# Altium schematic symbol library LimeMicroAltiumLib_schLib.SchLib: 199 symbols (part 7 of 8)
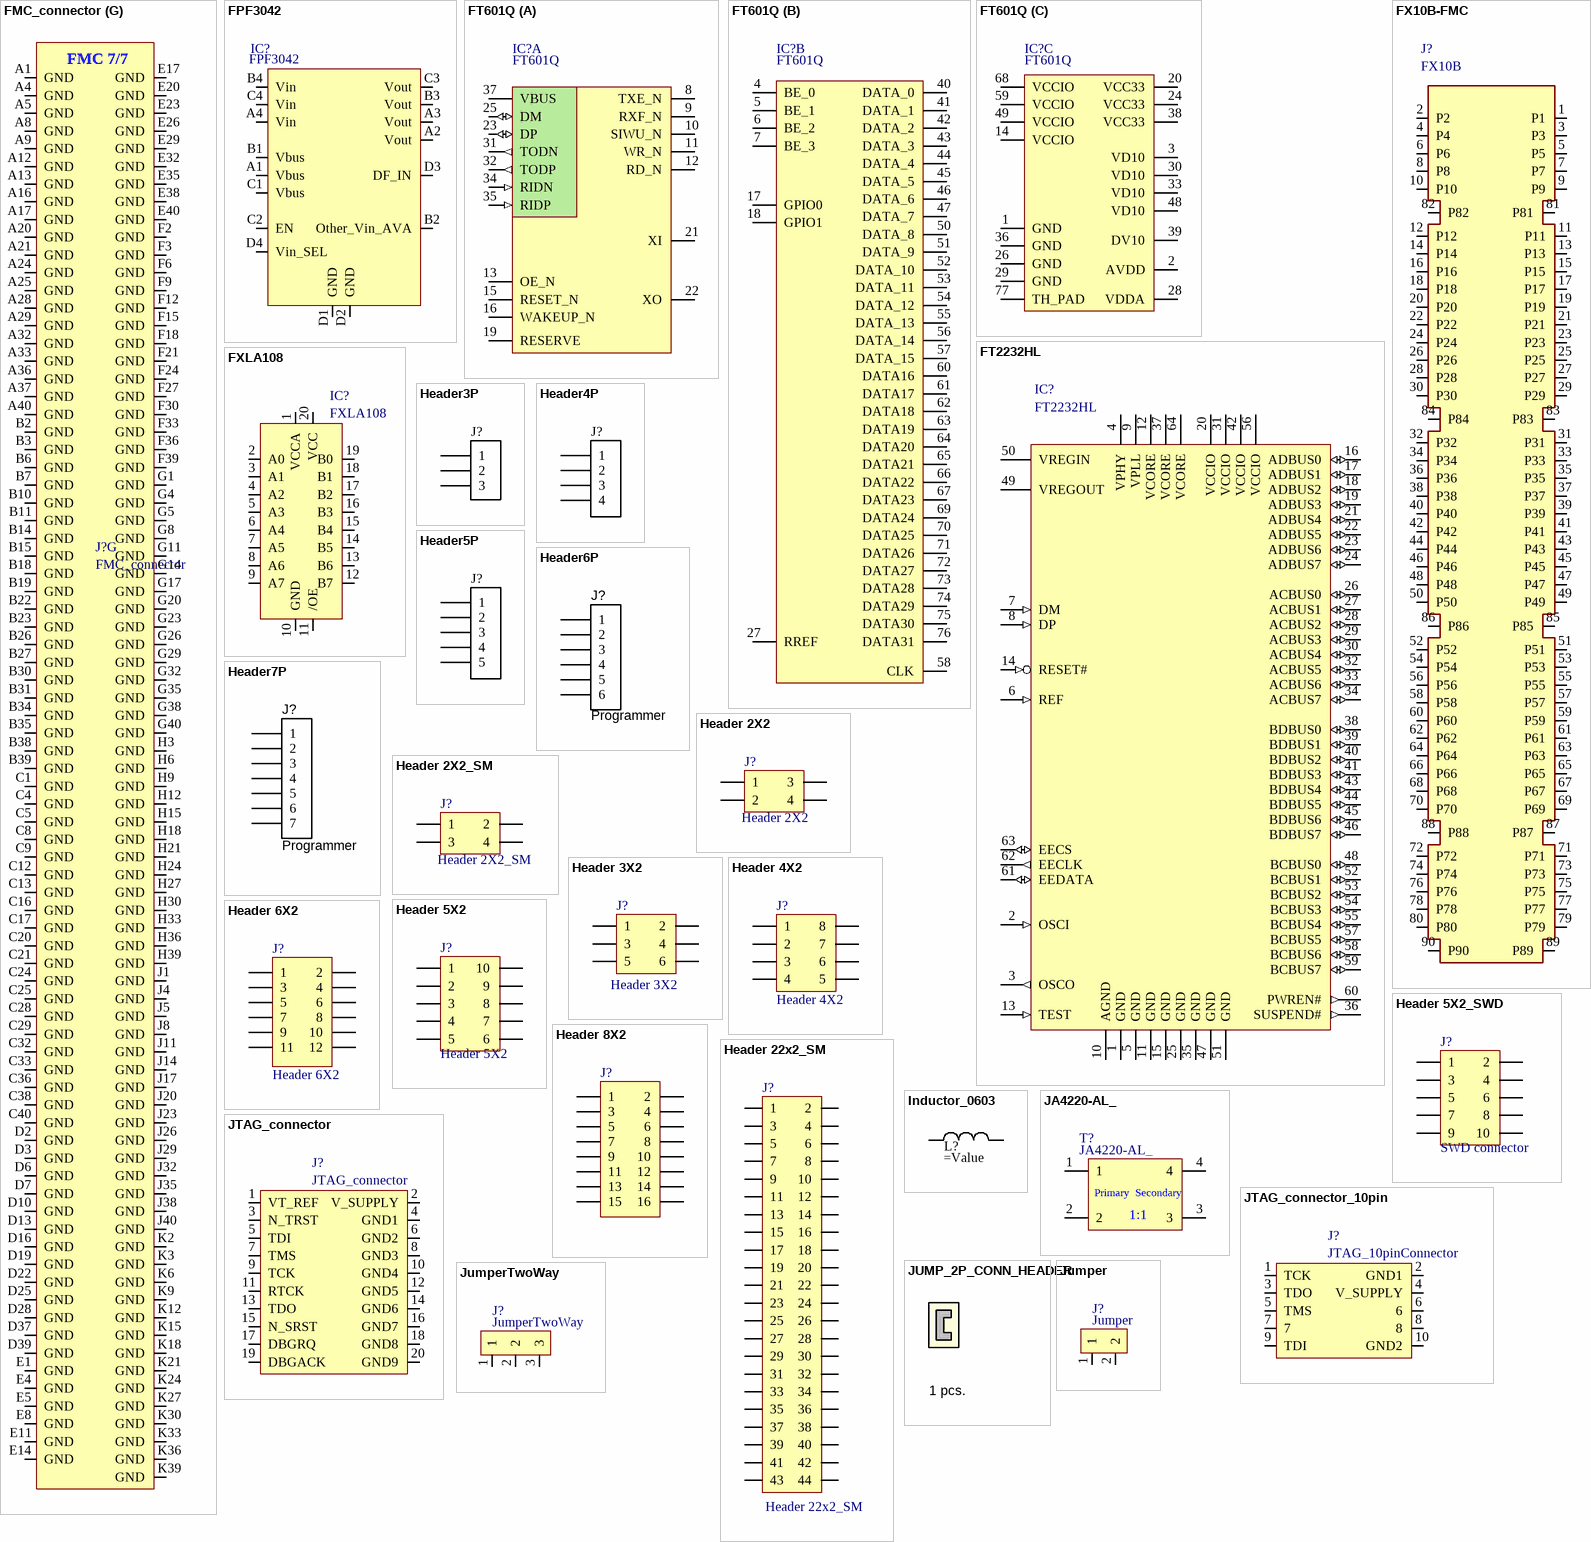
[diagram p40: symbols FMC_connector to JumperTwoWay]

## Header 22x2_SM
designator J?
footprint Header22x2_SM
pins: 1, 2, 3, 4, 5, 6, 7, 8, 9, 10, 11, 12, 13, 14, 15, 16, 17, 18, 19, 20, 21, 22, 23, 24, 25, 26, 27, 28, 29, 30, 31, 32, 33, 34, 35, 36, 37, 38, 39, 40, 41, 42, 43, 44

## Inductor_0603
designator L?
pins: 1, 2

## JA4220-AL_
designator T?
Part Description: RF balun; 1:1 ratio; 3 dB bandwidth: 0.1 MHz to 3.5 GHz; 3.8mm x 3.8mm; Supplier 1: Coilcraft; Manufacturer Part Number 1: JA4220-AL_; Supplier Part Number: JA4220-AL_
footprint JA4220-AL_
pins: 1, 2, 3, 4
text: Primary; Secondary; 1:1

## JTAG_connector
designator J?
pins: 1 VT_REF, 2 V_SUPPLY, 3 N_TRST, 4 GND1 (power), 5 TDI, 6 GND2 (power), 7 TMS, 8 GND3 (power), 9 TCK, 10 GND4 (power), 11 RTCK, 12 GND5 (power), 13 TDO, 14 GND6 (power), 15 N_SRST, 16 GND7 (power), 17 DBGRQ, 18 GND8 (power), 19 DBGACK, 20 GND9 (power)

## JTAG_connector_10pin
designator J?, comment JTAG_10pinConnector
footprint HEADER5x2_SM
pins: 1 TCK, 2 GND1 (power), 3 TDO, 4 V_SUPPLY (power), 5 TMS, 6, 7, 8, 9 TDI, 10 GND2 (power)

## JUMP_2P_CONN_HEADER
designator JMP?, comment 1 pcs.  (mechanical)
Shorting Jumper, 2-position, 2.54mm pitch; Manufacturer: Sullins Connector Solutions; Manufacturer Part Number 1: SPC02SYAN; Pitch: 0.100" (2.54mm); Gender: Female Sockets; Number of Positions or Pins (Grid): 2 (1 x 2); Supplier 1: Digi-Key; Type: Closed Top; Packaging: Bulk; Contact Finish: Gold; Color: Black; Height: 0.256" (6.50mm); RoHS: RoHS Compliant; Category: Connectors, Interconnects; Contact Finish Thickness: Flash; Supplier Part Number 1: S9001-ND
pins: 1 hidden, 2 hidden

## Jumper
designator J?
pins: 1, 2

## JumperTwoWay
designator J?
footprint HDR_1x3
pins: 1, 2, 3

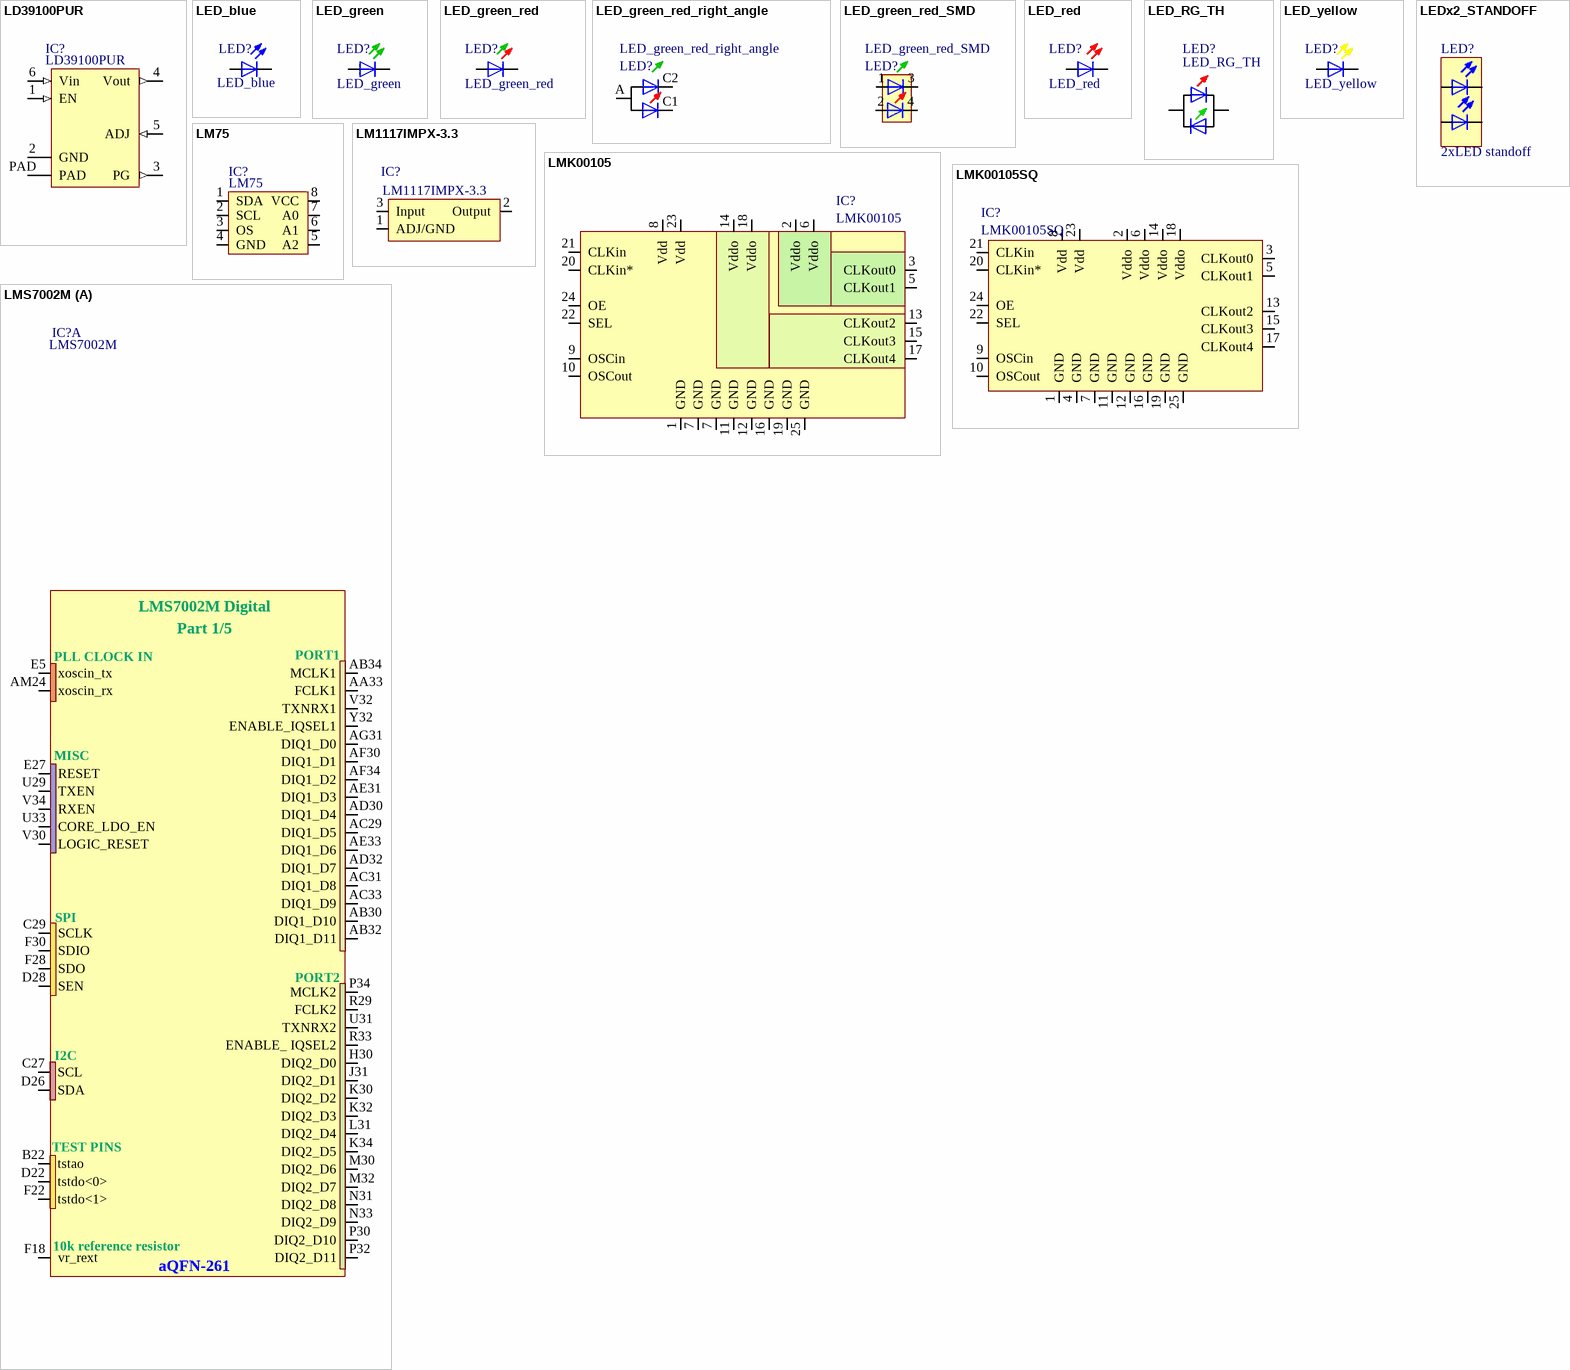
[diagram p27: symbols LD39100PUR to LMS7002M]

## LD39100PUR
designator IC?
Manufacturer: STMicroelectronics; Part Description: Linear Voltage Regulator IC Positive Adjustable Output 0.8 V ~ 4.5 V 1A 6-DFN (3x3); Output Configuration: Positive; Output Type: Adjustable; Voltage - Input (Max): 5.5V; Voltage - Output (Min/Fixed): 0.8V; Voltage - Output (Max): 4.6V; Voltage Dropout (Max): 0.4V @ 1A; Current - Output: 1A; Current - Supply: 50µA ~ 300µA; PSRR: 70dB ~ 65dB (1kHz ~ 10kHz); Control Features: Enable, Power Good; Protection Features: Over Current, Over Temperature, Short Circuit; Supplier 1: Digi-Key; Manufacturer Part Number 1: LD39100PUR; RoHS: RoHS Compliant; Category: Integrated Circuits (ICs); Stock 1: 27970; Pricing 1: 1=0.85, 10=0.76, 100=0.5923, 500=0.48926, 1000=0.38625 (USD); Packaging: Cut Tape (CT); Part Status: Active; Operating Temperature: -40°C ~ 125°C; Mounting Type: Surface Mount; Package / Case: 6-VDFN Exposed Pad; Supplier Device Package: 6-DFN (3x3); ComponentLink1URL: http://www.st.com/content/ccc/resource/technical/document/datasheet/72/02/e5/ee/df/36/40/5e/CD00233788.pdf/files/CD00233788.pdf/jcr:content/translations/en.CD00233788.pdf; ComponentLink1Description: http://www.st.com/content/ccc/resource/technical/document/datasheet/72/02/e5/ee/df/36/40/5e/CD00233788.pdf/files/CD00233788.pdf/jcr:content/translations/en.CD00233788.pdf; Supplier Part Number 1: 497-11013-1-ND
footprint LD39100PUR
pins: 1 EN (in), 2 GND, 3 PG (out), 4 Vout (out), 5 ADJ (in), 6 Vin (in), PAD

## LED_blue
designator LED?
footprint LED-0603-BLUE
pins: A (power), K C (power)

## LED_green
designator LED?
footprint LED-0603-GREEN
pins: A (power), K C (power)

## LED_green_red
designator LED?
footprint LED-0603-GREEN
pins: A (power), K C (power)

## LED_green_red_right_angle
designator LED?
160-2033-1-ND; Manufacturer Part Number 1: LTST-S326KGJRKT; Viewing Angle: 130 deg; Brand: Lite-On; Illumination Color: Red, Green; If - Forward Current: 20 mA; Luminous Intensity: 45 mcd, 35 mcd; LED Size: 3 mm x 2 mm x 1 mm; Lens Color/Style: Water Clear; Vf - Forward Voltage: 2 V, 2 V; Wavelength/Color Temperature: 631 nm, 571 nm; Supplier 1: Mouser; Category: Standard LEDs - SMD; Minimum Order Quantity: 1; Minimum Operating Temperature: - 55 C; Packaging: Reel; RoHS: RoHS Compliant; Mounting Style: SMD/SMT; Standard Pack Qty: 3000; Package / Case: Side Looker; Orientation: Side View; Maximum Operating Temperature: + 85 C; Reeling: True; RoHS - Mouser: Y; Product Category: SMT LED; Manufacturer: Lite-On; Supplier Part Number 1: 859-LTST-S326KGJRKT
footprint LED_RG_RIGHT_ANGLE (LTST-S326KGJRKT)
pins: A (power), C1 (power), C2 (power)

## LED_green_red_SMD
designator LED?
Manufacturer Part Number 1: HSMF-C165; Manufacturer: Avago Technologies US Inc.; Millicandela Rating: 15mcd Green, 10mcd Red; Lens Transparency: Diffused; Lens Color: White; Lens Style/Size: Rectangle with Flat Top, 1.60mm x 0.80mm; Wavelength - Peak: 570nm Green, 636nm Red; Wavelength - Dominant: 572nm Green, 621nm Red; Viewing Angle: 120°; Voltage - Forward (Vf) (Typ): 2.2V Green, 1.95V Red; Current - Test: 20mA; Color: Green, Red; Supplier 1: Digi-Key; Height (Max): 0.50mm; Packaging: Cut Tape (CT); Category: Optoelectronics; Mounting Type: Surface Mount; Package / Case: 0603 (1608 Metric); Size / Dimension: 1.60mm L x 0.80mm W; Supplier Device Package: *; RoHS: RoHS Compliant; Supplier Part Number 1: 516-1419-1-ND
footprint LED-2x0603
pins: 1 (power), 2 (power), 3 (power), 4 (power)

## LED_red
designator LED?
footprint LED-0603-RED
pins: A (power), K C (power)

## LED_RG_TH
designator LED?
Manufacturer: BIVAR; Manufacturer Part Number 1: 3BC-F; Forward Current / Color: R 20mA, G 10; LED Color: Green, Red; Luminous Intensity / Color: R 6mcd, G 6; Forward Voltage / Color: R 2V, G 2.1; Bulb Size: T-1 (3; Viewing Angle: 45; Supplier 1: Farnell; MSL: -; RoHS: YES; Supplier Part Number 1: 2114433
footprint LED_RF_TH_3MM (Bivar Inc. 4301F1/5-A red green throughole LED)
pins: 1 (power), 2 (power)

## LED_yellow
designator LED?
footprint LED-0603-YELLOW
pins: A (power), K C (power)

## LEDx2_STANDOFF
designator LED?, comment 2xLED standoff
footprint LED_STANDOFF_H-201C (Bivar Inc. H-201C)
pins: A1 A (power), A2 A (power), K1 C (power), K2 C (power)

## LM75
designator IC?
Manufacturer: NXP Semiconductors; Manufacturer Part Number: LM75BTP,147; Sensing Temperature - Local: -55°C ~ 125°C; Output Type: I²C; Accuracy - Highest (Lowest): ±2°C (±3°C); Voltage - Supply: 2.8 V ~ 5.5 V; Test Condition: -25°C ~ 100°C (-55°C ~ 125°C); Sensor Type: Digital, Local; Resolution: 10 b; Supplier 1: Digi-Key; Operating Temperature: -55°C ~ 125°C; Features: Output Switch, Programmable Limit, Shutdown Mode; Supplier Device Package: 8-HWSON (2x3); Sensing Temperature - Remote: -; Category: Sensors, Transducers; Packaging: Tape & Reel (TR); RoHS: RoHS Compliant; Package / Case: 8-WFDFN Exposed Pad; Supplier Part Number 1: 568-9815-2-ND
footprint HWSON8_LM75
pins: 1 SDA, 2 SCL, 3 OS, 4 GND, 5 A2, 6 A1, 7 A0, 8 VCC

## LM1117IMPX-3.3
designator IC?
Manufacturer Part Number 1: LM1117IMP-3.3/NOPB; Manufacturer: Texas Instruments; Regulator Topology: Positive Fixed; Voltage - Input: Up to 15V; Current - Limit (Min): 800mA; Number of Regulators: 1; Voltage - Output: 3.3V; Voltage - Dropout (Typical): 1.2V @ 800mA; Supplier 1: Digi-Key; RoHS: RoHS Compliant; Mounting Type: Surface Mount; Operating Temperature: -40°C ~ 125°C; Supplier Device Package: SOT-223; Packaging: Cut Tape (CT); Package / Case: TO-261-4, TO-261AA; Current - Output: 800mA; Category: Integrated Circuits (ICs); Supplier Part Number 1: LM1117IMP-3.3/NOPBCT-ND
footprint sot-223 (Footprint not found)
pins: 1 ADJ/GND, 2 Output, 3 Input

## LMK00105
designator IC?
Manufacturer: Texas Instruments; Manufacturer Part Number 1: LMK00105SQ/NOPB; Frequency - Max: 200MHz; Voltage - Supply: 2.375 V ~ 3.45 V; Input: HCSL, LVCMOS, LVDS, LVPECL, LVTTL, SSTL, Crystal; Differential - Input:Output: Yes/No; Supplier 1: Digi-Key; Type: Fanout Buffer (Distribution), Multiplexer, Translator; Category: Integrated Circuits (ICs); Operating Temperature: -40°C ~ 85°C; Package / Case: 24-WFQFN Exposed Pad; Supplier Device Package: 24-WQFN (4x4); Supplier Part Number 1: LMK00105SQ/NOPBCT-ND
footprint LMK00105SQ (QFN, 24-Leads, Body 4,00x4,00mm, Pitch 0,50mm, Thermal Pad 2,60x2,60mm, IPC Medium Density)
pins: 1 GND, 2 Vddo, 3 CLKout0, 5 CLKout1, 6 Vddo, 7 GND, 7 GND, 8 Vdd, 9 OSCin, 10 OSCout, 11 GND, 12 GND, 13 CLKout2, 14 Vddo, 15 CLKout3, 16 GND, 17 CLKout4, 18 Vddo, 19 GND, 20 CLKin*, 21 CLKin, 22 SEL, 23 Vdd, 24 OE, 25 GND

## LMK00105SQ
designator IC?
Manufacturer Part Number 1: LMK00105SQ/NOPB; Manufacturer: Texas Instruments; Voltage - Supply: 2.375 V ~ 3.45 V; Frequency - Max: 200MHz; Differential - Input:Output: Yes/No; Number of Circuits: 1; Output: LVCMOS; Input: HCSL, LVCMOS, LVDS, LVPECL, LVTTL, SSTL, Crystal; Ratio - Input:Output: 2:5; Supplier 1: Digi-Key; Operating Temperature: -40°C ~ 85°C; RoHS: RoHS Compliant; Category: Integrated Circuits (ICs); Type: Fanout Buffer (Distribution), Multiplexer, Translator; Packaging: Cut Tape (CT); Supplier Device Package: 24-WQFN (4x4); Mounting Type: Surface Mount; Package / Case: 24-WFQFN Exposed Pad; Supplier Part Number 1: LMK00105SQ/NOPBCT-ND
pins: 1 GND, 2 Vddo, 3 CLKout0, 4 GND, 5 CLKout1, 6 Vddo, 7 GND, 8 Vdd, 9 OSCin, 10 OSCout, 11 GND, 12 GND, 13 CLKout2, 14 Vddo, 15 CLKout3, 16 GND, 17 CLKout4, 18 Vddo, 19 GND, 20 CLKin*, 21 CLKin, 22 SEL, 23 Vdd, 24 OE, 25 GND

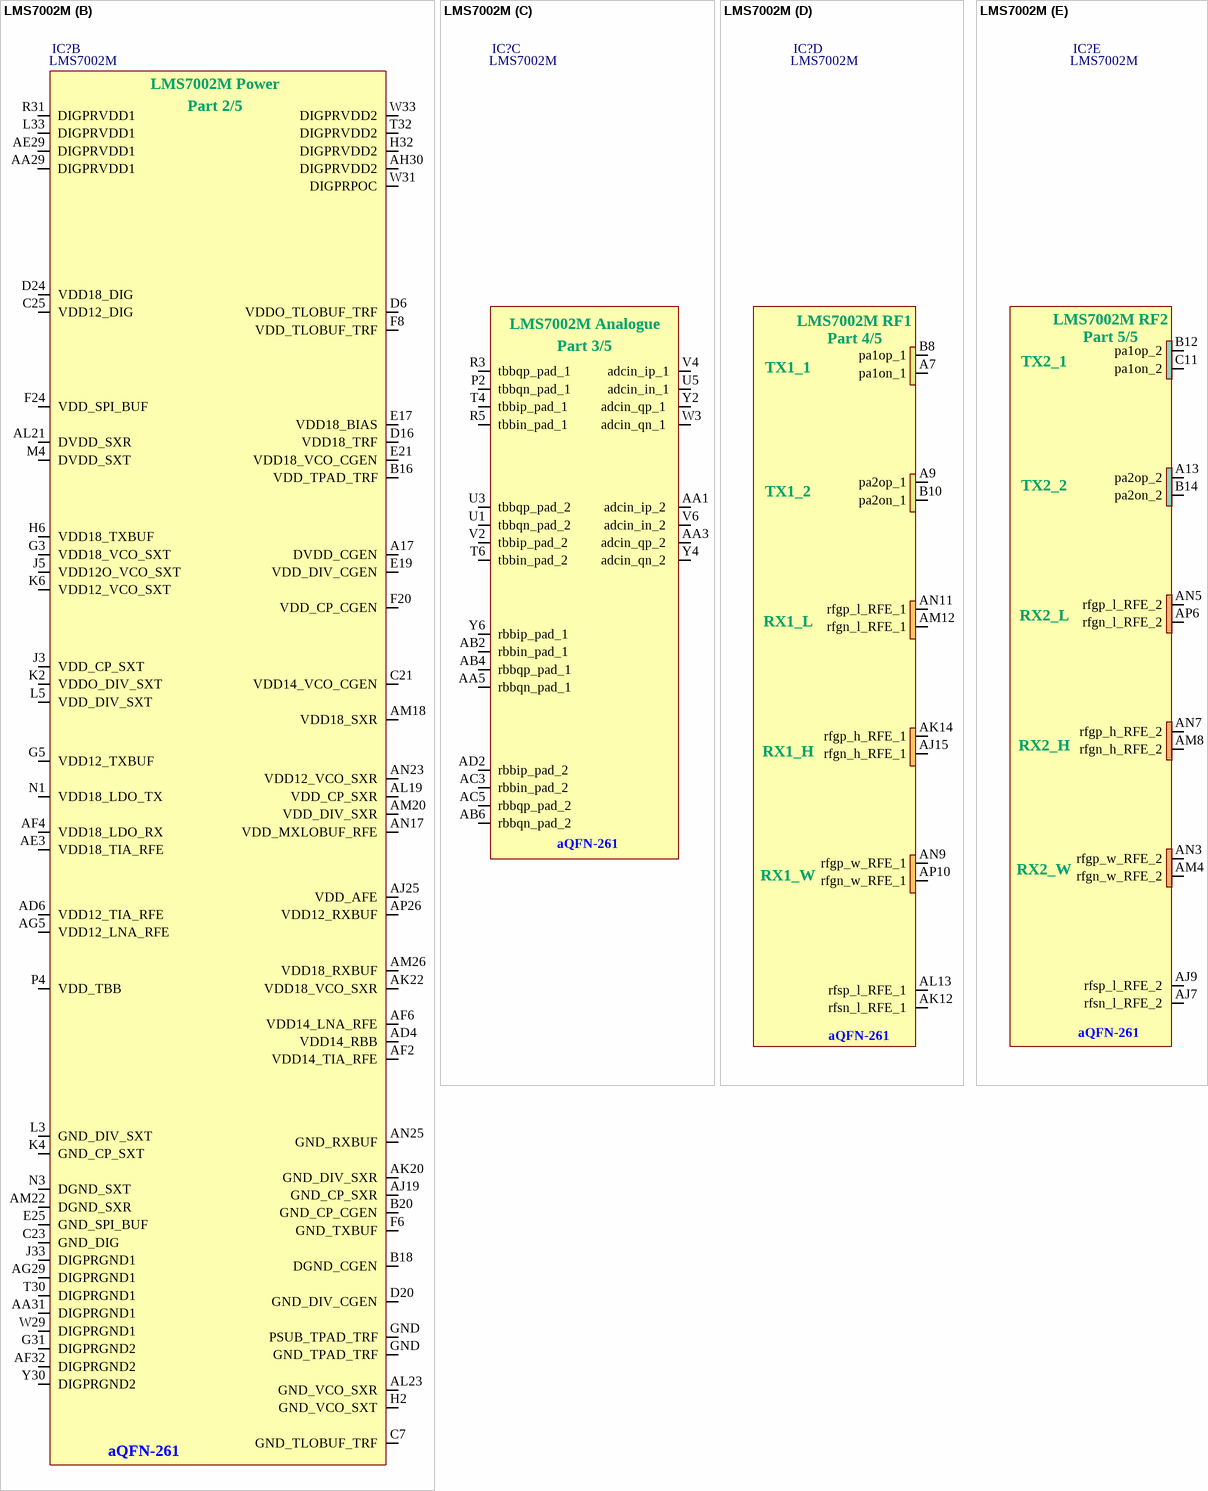
[diagram p28: symbol LMS7002M]

## LMS7002M
designator IC?
Manufacturer: Lime Microsystems; Part Description: IC FPRF Transceiver LMS7002M; 261 pin aQFN; Supplier 1: Lime Microsystems; Supplier Part Number 1: LMS7002M; Manufacturer Part Number 1: LMS7002M
footprint LMS7002M
part A pins: AA33 FCLK1, AB30 DIQ1_D10, AB32 DIQ1_D11, AB34 MCLK1, AC29 DIQ1_D5, AC31 DIQ1_D8, AC33 DIQ1_D9, AD30 DIQ1_D4, AD32 DIQ1_D7, AE31 DIQ1_D3, AE33 DIQ1_D6, AF30 DIQ1_D1, AF34 DIQ1_D2, AG31 DIQ1_D0, AM24 xoscin_rx, B22 tstao, C27 SCL, C29 SCLK, D22 tstdo<0>, D26 SDA, D28 SEN, E5 xoscin_tx, E27 RESET, F18 vr_rext, F22 tstdo<1>, F28 SDO, F30 SDIO, H30 DIQ2_D0, J31 DIQ2_D1, K30 DIQ2_D2, K32 DIQ2_D3, K34 DIQ2_D5, L31 DIQ2_D4, M30 DIQ2_D6, M32 DIQ2_D7, N31 DIQ2_D8, N33 DIQ2_D9, P30 DIQ2_D10, P32 DIQ2_D11, P34 MCLK2, R29 FCLK2, R33 ENABLE_ IQSEL2, U29 TXEN, U31 TXNRX2, U33 CORE_LDO_EN, V30 LOGIC_RESET, V32 TXNRX1, V34 RXEN, Y32 ENABLE_IQSEL1
part B pins: A17 DVDD_CGEN, AA29 DIGPRVDD1, AA31 DIGPRGND1, AD4 VDD14_RBB, AD6 VDD12_TIA_RFE, AE3 VDD18_TIA_RFE, AE29 DIGPRVDD1, AF2 VDD14_TIA_RFE, AF4 VDD18_LDO_RX, AF6 VDD14_LNA_RFE, AF32 DIGPRGND2, AG5 VDD12_LNA_RFE, AG29 DIGPRGND1, AH30 DIGPRVDD2, AJ19 GND_CP_SXR, AJ25 VDD_AFE, AK20 GND_DIV_SXR, AK22 VDD18_VCO_SXR, AL19 VDD_CP_SXR, AL21 DVDD_SXR, AL23 GND_VCO_SXR, AM18 VDD18_SXR, AM20 VDD_DIV_SXR, AM22 DGND_SXR, AM26 VDD18_RXBUF, AN17 VDD_MXLOBUF_RFE, AN23 VDD12_VCO_SXR, AN25 GND_RXBUF, AP26 VDD12_RXBUF, B16 VDD_TPAD_TRF, B18 DGND_CGEN, B20 GND_CP_CGEN, C7 GND_TLOBUF_TRF, C21 VDD14_VCO_CGEN, C23 GND_DIG, C25 VDD12_DIG, D6 VDDO_TLOBUF_TRF, D16 VDD18_TRF, D20 GND_DIV_CGEN, D24 VDD18_DIG, E17 VDD18_BIAS, E19 VDD_DIV_CGEN, E21 VDD18_VCO_CGEN, E25 GND_SPI_BUF, F6 GND_TXBUF, F8 VDD_TLOBUF_TRF, F20 VDD_CP_CGEN, F24 VDD_SPI_BUF, G3 VDD18_VCO_SXT, G5 VDD12_TXBUF, G31 DIGPRGND2, GND PSUB_TPAD_TRF, GND GND_TPAD_TRF, H2 GND_VCO_SXT, H6 VDD18_TXBUF, H32 DIGPRVDD2, J3 VDD_CP_SXT, J5 VDD12O_VCO_SXT, J33 DIGPRGND1, K2 VDDO_DIV_SXT, K4 GND_CP_SXT, K6 VDD12_VCO_SXT, L3 GND_DIV_SXT, L5 VDD_DIV_SXT, L33 DIGPRVDD1, M4 DVDD_SXT, N1 VDD18_LDO_TX, N3 DGND_SXT, P4 VDD_TBB, R31 DIGPRVDD1, T30 DIGPRGND1, T32 DIGPRVDD2, W29 DIGPRGND1, W31 DIGPRPOC, W33 DIGPRVDD2, Y30 DIGPRGND2
part C pins: AA1 adcin_ip_2 , AA3 adcin_qp_2 , AA5 rbbqn_pad_1 , AB2 rbbin_pad_1, AB4 rbbqp_pad_1, AB6 rbbqn_pad_2 , AC3 rbbin_pad_2, AC5 rbbqp_pad_2 , AD2 rbbip_pad_2 , P2 tbbqn_pad_1, R3 tbbqp_pad_1, R5 tbbin_pad_1, T4 tbbip_pad_1, T6 tbbin_pad_2, U1 tbbqn_pad_2, U3 tbbqp_pad_2, U5 adcin_in_1, V2 tbbip_pad_2, V4 adcin_ip_1, V6 adcin_in_2 , W3 adcin_qn_1 , Y2 adcin_qp_1 , Y4 adcin_qn_2 , Y6 rbbip_pad_1 
part D pins: A7 pa1on_1, A9 pa2op_1, AJ15 rfgn_h_RFE_1, AK12 rfsn_l_RFE_1, AK14 rfgp_h_RFE_1, AL13 rfsp_l_RFE_1, AM12 rfgn_l_RFE_1, AN9 rfgp_w_RFE_1, AN11 rfgp_l_RFE_1, AP10 rfgn_w_RFE_1, B8 pa1op_1, B10 pa2on_1
part E pins: A13 pa2op_2, AJ7 rfsn_l_RFE_2, AJ9 rfsp_l_RFE_2, AM4 rfgn_w_RFE_2, AM8 rfgn_h_RFE_2, AN3 rfgp_w_RFE_2, AN5 rfgp_l_RFE_2, AN7 rfgp_h_RFE_2, AP6 rfgn_l_RFE_2, B12 pa1op_2, B14 pa2on_2, C11 pa1on_2
part A text: LMS7002M Digital; Part 1/5; PLL CLOCK IN; PORT1; MISC; SPI; PORT2; I2C; TEST PINS; 10k reference resistor; aQFN-261
part B text: LMS7002M Power; Part 2/5; aQFN-261
part C text: LMS7002M Analogue; Part 3/5; aQFN-261
part D text: LMS7002M RF1; Part 4/5; TX1_1; TX1_2; RX1_L; RX1_H; RX1_W; aQFN-261
part E text: LMS7002M RF2; Part 5/5; TX2_1; TX2_2; RX2_L; RX2_H; RX2_W; aQFN-261

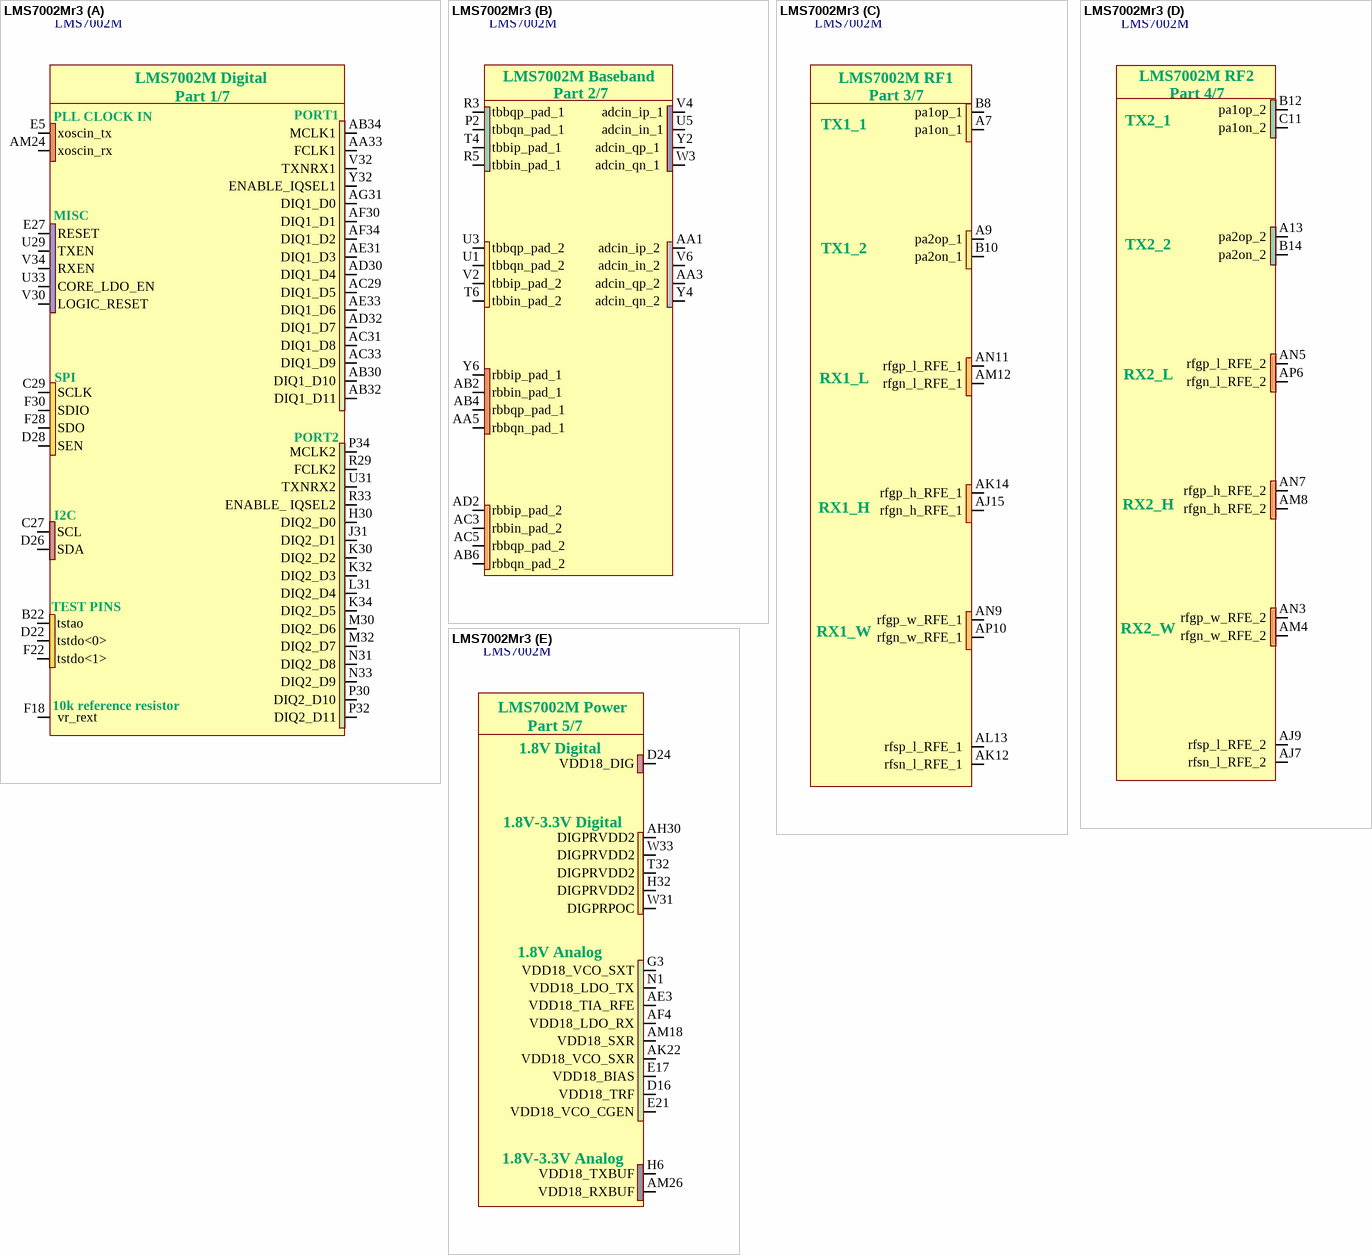
[diagram p29: symbol LMS7002Mr3]

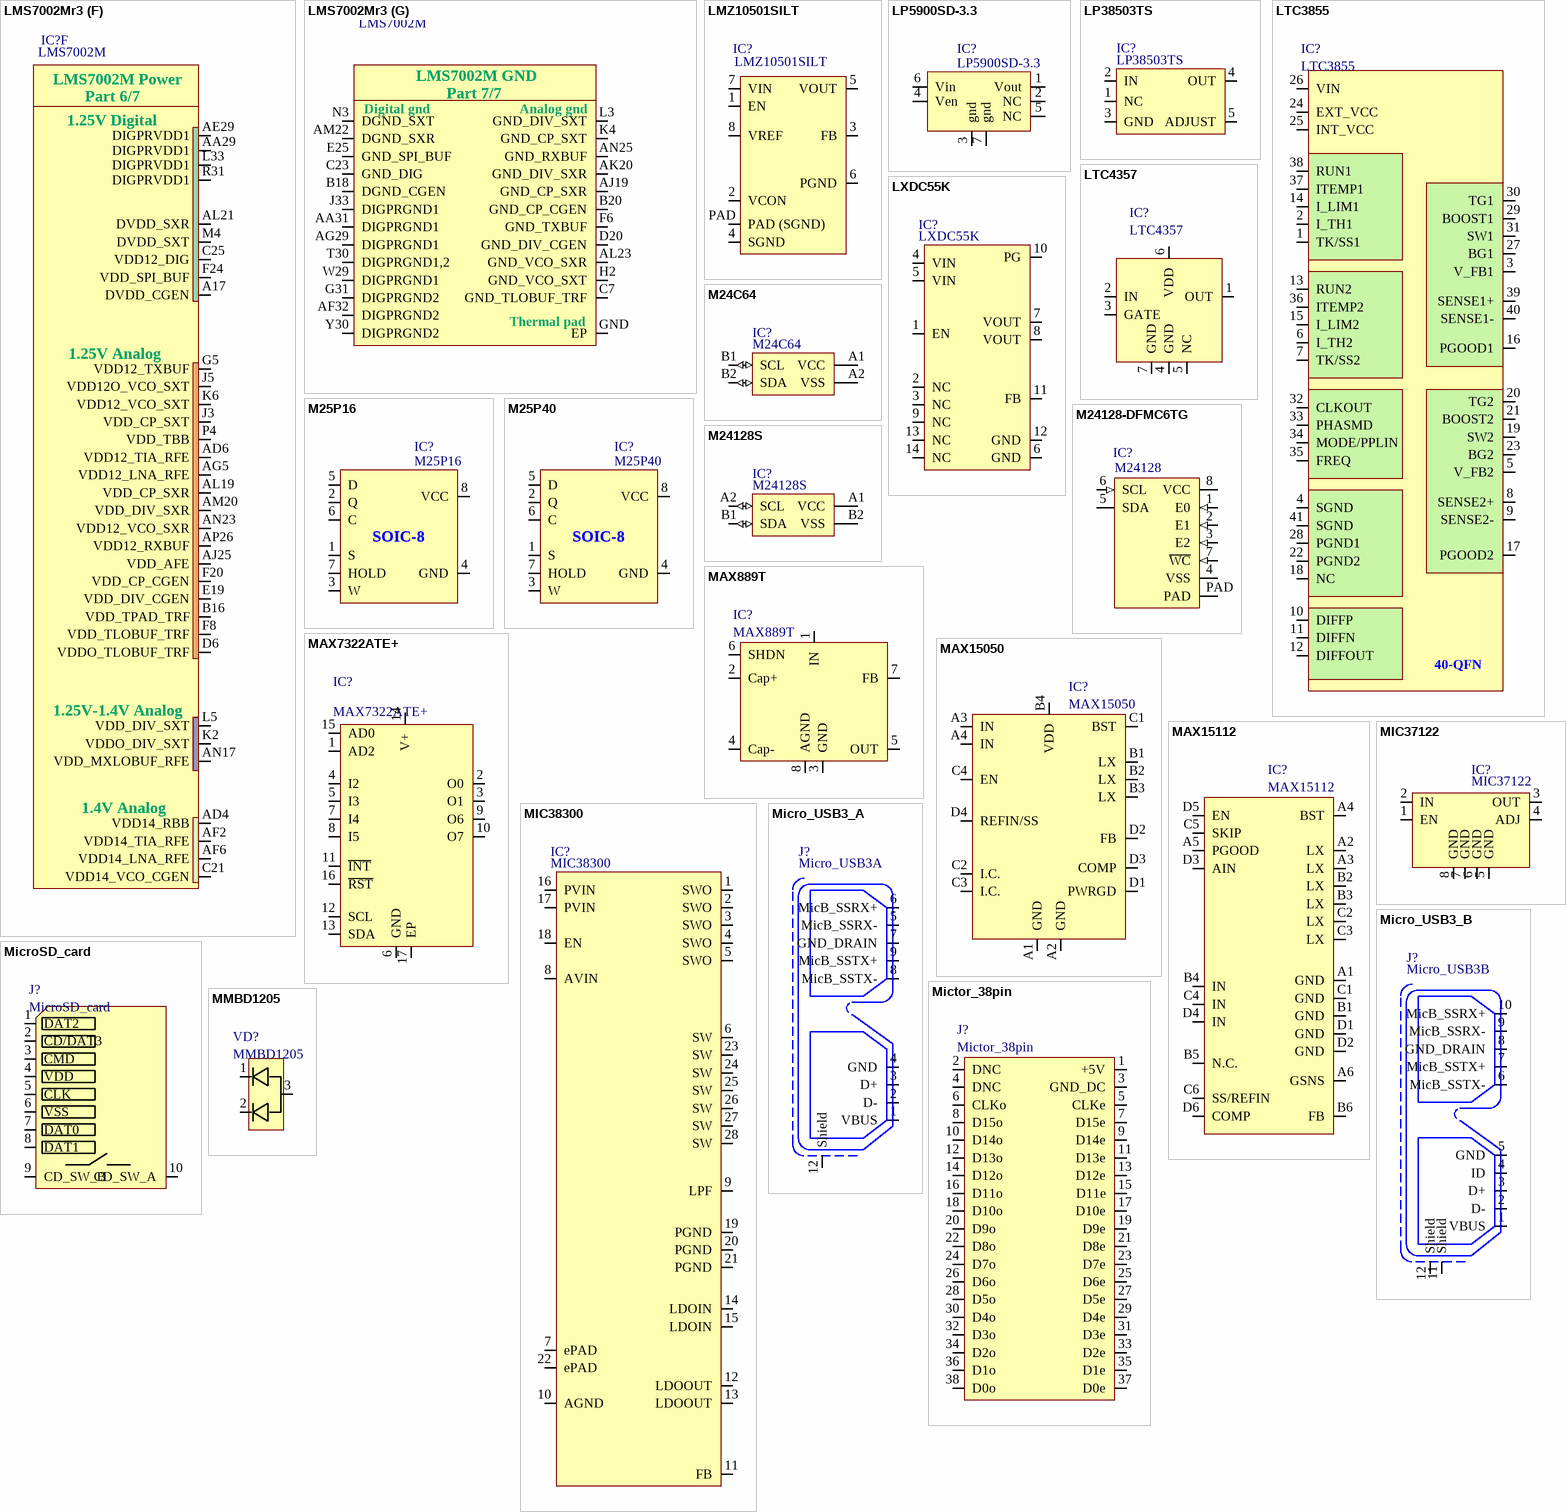
[diagram p30: symbols LMS7002Mr3 to MMBD1205]

## LMS7002Mr3
designator IC?, comment LMS7002M
Schematic symbol revision 3. Default footprint - 0.31mm pad; Manufacturer: Lime Microsystems; Part Description: IC FPRF Transceiver LMS7002M; 261 pin aQFN; Supplier 1: Lime Microsystems; Supplier Part Number 1: LMS7002M; Manufacturer Part Number 1: LMS7002M
footprint LMS7002M_v3 (LMS7002 without AM2 pad (internally unconnected). Pad size reduced to 0.31mm from 0.35)
part A pins: AA33 FCLK1, AB30 DIQ1_D10, AB32 DIQ1_D11, AB34 MCLK1, AC29 DIQ1_D5, AC31 DIQ1_D8, AC33 DIQ1_D9, AD30 DIQ1_D4, AD32 DIQ1_D7, AE31 DIQ1_D3, AE33 DIQ1_D6, AF30 DIQ1_D1, AF34 DIQ1_D2, AG31 DIQ1_D0, AM24 xoscin_rx, B22 tstao, C27 SCL, C29 SCLK, D22 tstdo<0>, D26 SDA, D28 SEN, E5 xoscin_tx, E27 RESET, F18 vr_rext, F22 tstdo<1>, F28 SDO, F30 SDIO, H30 DIQ2_D0, J31 DIQ2_D1, K30 DIQ2_D2, K32 DIQ2_D3, K34 DIQ2_D5, L31 DIQ2_D4, M30 DIQ2_D6, M32 DIQ2_D7, N31 DIQ2_D8, N33 DIQ2_D9, P30 DIQ2_D10, P32 DIQ2_D11, P34 MCLK2, R29 FCLK2, R33 ENABLE_ IQSEL2, U29 TXEN, U31 TXNRX2, U33 CORE_LDO_EN, V30 LOGIC_RESET, V32 TXNRX1, V34 RXEN, Y32 ENABLE_IQSEL1
part B pins: AA1 adcin_ip_2 , AA3 adcin_qp_2 , AA5 rbbqn_pad_1 , AB2 rbbin_pad_1, AB4 rbbqp_pad_1, AB6 rbbqn_pad_2 , AC3 rbbin_pad_2, AC5 rbbqp_pad_2 , AD2 rbbip_pad_2 , P2 tbbqn_pad_1, R3 tbbqp_pad_1, R5 tbbin_pad_1, T4 tbbip_pad_1, T6 tbbin_pad_2, U1 tbbqn_pad_2, U3 tbbqp_pad_2, U5 adcin_in_1, V2 tbbip_pad_2, V4 adcin_ip_1, V6 adcin_in_2 , W3 adcin_qn_1 , Y2 adcin_qp_1 , Y4 adcin_qn_2 , Y6 rbbip_pad_1 
part C pins: A7 pa1on_1, A9 pa2op_1, AJ15 rfgn_h_RFE_1, AK12 rfsn_l_RFE_1, AK14 rfgp_h_RFE_1, AL13 rfsp_l_RFE_1, AM12 rfgn_l_RFE_1, AN9 rfgp_w_RFE_1, AN11 rfgp_l_RFE_1, AP10 rfgn_w_RFE_1, B8 pa1op_1, B10 pa2on_1
part D pins: A13 pa2op_2, AJ7 rfsn_l_RFE_2, AJ9 rfsp_l_RFE_2, AM4 rfgn_w_RFE_2, AM8 rfgn_h_RFE_2, AN3 rfgp_w_RFE_2, AN5 rfgp_l_RFE_2, AN7 rfgp_h_RFE_2, AP6 rfgn_l_RFE_2, B12 pa1op_2, B14 pa2on_2, C11 pa1on_2
part E pins: AE3 VDD18_TIA_RFE (power), AF4 VDD18_LDO_RX (power), AH30 DIGPRVDD2 (power), AK22 VDD18_VCO_SXR (power), AM18 VDD18_SXR (power), AM26 VDD18_RXBUF (power), D16 VDD18_TRF (power), D24 VDD18_DIG (power), E17 VDD18_BIAS (power), E21 VDD18_VCO_CGEN (power), G3 VDD18_VCO_SXT (power), H6 VDD18_TXBUF (power), H32 DIGPRVDD2 (power), N1 VDD18_LDO_TX (power), T32 DIGPRVDD2 (power), W31 DIGPRPOC (power), W33 DIGPRVDD2 (power)
part F pins: A17 DVDD_CGEN (power), AA29 DIGPRVDD1 (power), AD4 VDD14_RBB (power), AD6 VDD12_TIA_RFE (power), AE29 DIGPRVDD1 (power), AF2 VDD14_TIA_RFE (power), AF6 VDD14_LNA_RFE (power), AG5 VDD12_LNA_RFE (power), AJ25 VDD_AFE (power), AL19 VDD_CP_SXR (power), AL21 DVDD_SXR (power), AM20 VDD_DIV_SXR (power), AN17 VDD_MXLOBUF_RFE (power), AN23 VDD12_VCO_SXR (power), AP26 VDD12_RXBUF (power), B16 VDD_TPAD_TRF (power), C21 VDD14_VCO_CGEN (power), C25 VDD12_DIG (power), D6 VDDO_TLOBUF_TRF (power), E19 VDD_DIV_CGEN (power), F8 VDD_TLOBUF_TRF (power), F20 VDD_CP_CGEN (power), F24 VDD_SPI_BUF (power), G5 VDD12_TXBUF (power), J3 VDD_CP_SXT (power), J5 VDD12O_VCO_SXT (power), K2 VDDO_DIV_SXT (power), K6 VDD12_VCO_SXT (power), L5 VDD_DIV_SXT (power), L33 DIGPRVDD1 (power), M4 DVDD_SXT (power), P4 VDD_TBB (power), R31 DIGPRVDD1 (power)
part G pins: AA31 DIGPRGND1, AF32 DIGPRGND2, AG29 DIGPRGND1, AJ19 GND_CP_SXR, AK20 GND_DIV_SXR, AL23 GND_VCO_SXR, AM22 DGND_SXR, AN25 GND_RXBUF, B18 DGND_CGEN, B20 GND_CP_CGEN, C7 GND_TLOBUF_TRF, C23 GND_DIG, D20 GND_DIV_CGEN, E25 GND_SPI_BUF, F6 GND_TXBUF, G31 DIGPRGND2, GND EP, H2 GND_VCO_SXT, J33 DIGPRGND1, K4 GND_CP_SXT, L3 GND_DIV_SXT, N3 DGND_SXT, T30 DIGPRGND1,2, W29 DIGPRGND1, Y30 DIGPRGND2
part A text: LMS7002M Digital; Part 1/7; PLL CLOCK IN; PORT1; MISC; SPI; PORT2; I2C; TEST PINS; 10k reference resistor
part B text: LMS7002M Baseband; Part 2/7
part C text: LMS7002M RF1; Part 3/7; TX1_1; TX1_2; RX1_L; RX1_H; RX1_W
part D text: LMS7002M RF2; Part 4/7; TX2_1; TX2_2; RX2_L; RX2_H; RX2_W
part E text: LMS7002M Power; Part 5/7; 1.8V Digital; 1.8V-3.3V Digital; 1.8V Analog; 1.8V-3.3V Analog
part F text: LMS7002M Power; Part 6/7; 1.25V Digital; 1.25V Analog; 1.25V-1.4V Analog; 1.4V Analog
part G text: LMS7002M GND; Part 7/7; Digital gnd; Analog gnd; Thermal pad

## LMZ10501SILT
designator IC?
Manufacturer: Texas Instruments; Current - Output (Max): 1A; Voltage - Output 1: 0.6 ~ 3.6 V; Voltage - Input (Min): 2.7V; Number of Outputs: 1; Efficiency: 95%; Voltage - Input (Max): 5.5V; Supplier 1: Digi-Key; Package / Case: 8-LLP; Voltage - Output 2: -; Voltage - Output 3: -; Operating Temperature: -40°C ~ 125°C; Mounting Type: Surface Mount; Applications: ITE (Commercial); Size / Dimension: 0.12" L x 0.10" W x 0.06" H (3.0mm x 2.6mm x 1.5mm); Type: Non-Isolated PoL Module; Power (Watts) - Max: -; Voltage - Isolation: -; Features: OCP, OTP, SCP, UVLO; RoHS: RoHS Compliant; Packaging: Digi-Reel®; Power (Watts) - Manufacture Series: -; Category: Power Supplies - Board Mount; Manufacturer Part Number 1: LMZ10501SILT; Supplier Part Number 1: 296-37266-6-ND
footprint RAKON_RTX5032A (RAKON RTX5032A 40MHz Filter enabled, with VC, 10pin 5mm x 3.2mm)
pins: 1 EN, 2 VCON, 3 FB, 4 SGND, 5 VOUT, 6 PGND, 7 VIN, 8 VREF, PAD PAD (SGND)

## LP5900SD-3.3
designator IC?
Manufacturer Part Number: LP5900SD-3.3/NOPB; Voltage - Output: 3.3V; Voltage - Dropout (Typical): 0.08V @ 150mA; Voltage - Input: Up to 5.5V; Supplier 1: Digi-Key; Supplier Part Number 1: LP5900SD-3.3/NOPBTR-ND; Package / Case: 6-WDFN Exposed Pad
pins: 1 Vout, 2 NC, 3 gnd, 4 Ven, 5 NC, 6 Vin, 7 gnd

## LP38503TS
designator IC?
Manufacturer Part Number: LP38503TS-ADJ/NOPB; Manufacturer: Texas Instruments; Regulator Topology: Positive Adjustable; Voltage - Dropout (Typical): 0.42V @ 3A; Number of Regulators: 1; Current - Output: 3A; Voltage - Output: 0.6 V ~ 5 V; Voltage - Input: 2.7 V ~ 5.5 V; Supplier 1: Digi-Key; Category: Integrated Circuits (ICs); RoHS: RoHS Compliant By Exemption; Operating Temperature: -40°C ~ 125°C; Packaging: Tube; Current - Limit (Min): -; Package / Case: TO-263-6, D²Pak (5 Leads + Tab), TO-263BA; Mounting Type: Surface Mount; Supplier Device Package: DDPAK/TO-263-5; Supplier Part Number 1: LP38503TS-ADJ/NOPB-ND
footprint TO-263-5 (D-PAK/TO-263-5; 5 Leads; Body 14.4 (inc. leads) x 10.4 mm (LxW max))
pins: 1 NC, 2 IN, 3 GND, 4 OUT, 5 ADJUST

## LTC3855
designator IC?
Manufacturer: Linear Technology; Number of Outputs: 2; Frequency - Max: 850kHz; Voltage - Supply: 4.5 V ~ 38 V; Duty Cycle: 95%; Supplier 1: Digi-Key; Package / Case: 40-WFQFN Exposed Pad; Operating Temperature: -40°C ~ 85°C; Category: Integrated Circuits (ICs); Supplier Part Number 1: LTC3855EUJ#TRPBF-ND
footprint LTC3855 (QFN, 40-Leads, Body 6,00x6,00mm, Pitch 0,50mm, Thermal Pad 4,40x4,40mm, IPC Medium Density)
pins: 1 TK/SS1, 2 I_TH1, 3 V_FB1, 4 SGND, 5 V_FB2, 6 I_TH2, 7 TK/SS2, 8 SENSE2+, 9 SENSE2-, 10 DIFFP, 11 DIFFN, 12 DIFFOUT, 13 RUN2, 14 I_LIM1, 15 I_LIM2, 16 PGOOD1, 17 PGOOD2, 18 NC, 19 SW2, 20 TG2, 21 BOOST2, 22 PGND2, 23 BG2, 24 EXT_VCC, 25 INT_VCC, 26 VIN, 27 BG1, 28 PGND1, 29 BOOST1, 30 TG1, 31 SW1, 32 CLKOUT, 33 PHASMD, 34 MODE/PPLIN, 35 FREQ, 36 ITEMP2, 37 ITEMP1, 38 RUN1, 39 SENSE1+, 40 SENSE1-, 41 SGND
text: 40-QFN

## LTC4357
designator IC?
Manufacturer Part Number: LTC4357IDCB#TRMPBF; Current - Supply: 500µA; Delay Time - OFF: 300ns; Voltage - Supply: 9 V ~ 80 V; FET Type: N-Channel; Supplier 1: Digi-Key; Type: N+1 ORing Controller; Category: Integrated Circuits (ICs); Applications: Automotive, Redundant Power Supplies, Telecom Infrastructure; Operating Temperature: -40°C ~ 85°C; Supplier Device Package: 6-DFN (2x3); Supplier Part Number: LTC4357IDCB#TRMPBFDKR-ND
footprint LTC4357 (SON, 6-Leads, Body 2,00x3,00mm, Pitch 0,50mm, Thermal Pad 1,35x1,12mm, IPC Medium Density)
pins: 1 OUT, 2 IN, 3 GATE, 4 GND, 5 NC, 6 VDD, 7 GND

## LXDC55K
designator IC?
LXDC55KAAA-205; Manufacturer: Murata Electronics North America; Power (Watts) - Manufacture Series: 11W; Current - Output (Max): 3A; Efficiency: 93%; Voltage - Input (Min): 2.7V; Voltage - Input (Max): 5.5V; Voltage - Output 1: 0.8 ~ 3.6 V; Number of Outputs: 1; Supplier 1: Digi-Key; Manufacturer Part Number 1: LXDC55KAAA-205; Category: Power Supplies - Board Mount; Type: Non-Isolated PoL Module; Package / Case: 14-SMD Module; Voltage - Output 3: -; Mounting Type: Surface Mount; Applications: ITE (Commercial); RoHS: RoHS Compliant; Power (Watts) - Max: 11W; Voltage - Output 2: -; Features: OCP, OTP, UVLO; Operating Temperature: -40°C ~ 85°C; Packaging: Digi-Reel®; Voltage - Isolation: -; Size / Dimension: 0.224" L x 0.224" W x 0.079" H (5.70mm x 5.70mm x 2.00mm); Supplier Part Number 1: 490-7312-6-ND
footprint LXDC55K
pins: 1 EN, 2 NC, 3 NC, 4 VIN, 5 VIN, 6 GND, 7 VOUT, 8 VOUT, 9 NC, 10 PG, 11 FB, 12 GND, 13 NC, 14 NC

## M24C64
designator IC?
Manufacturer Part Number 1: M24C64-FCU6TP/TF; Access Time: 450 ns; Organization: 8 k x 8; Brand: STMicroelectronics; Supply Current - Max: 1.5 mA, 2.5 mA; Interface Type: I2C; Memory Size: 64 kbit; Maximum Clock Frequency: 1 MHz; Data Retention: 200 Years; Supply Voltage - Max: 5.5 V; Operating Supply Voltage: 1.6 V to 5.5 V; Supply Voltage - Min: 1.6 V; Product Status: New Product; Supplier 1: Mouser; Manufacturer: STMicroelectronics; Series: Standard Serial EEPROM; Category: EEPROM; Mounting Style: SMD/SMT; RoHS: RoHS Compliant; Package / Case: WLCSP-4; Operating Supply Current: 1.5 mA, 2.5 mA; Maximum Operating Temperature: + 85 C; Minimum Operating Temperature: - 40 C; RoHS - Mouser: Y; Minimum Order Quantity: 1; Reeling: False; Supplier Part Number 1: 511-M24C64-FCU6TP/TF
footprint M24C64
pins: A1 VCC, A2 VSS, B1 SCL (io), B2 SDA (io)

## M25P16
designator IC?
Manufacturer: Micron Technology Inc; Voltage - Supply: 2.7 V ~ 3.6 V; Memory Size: 16M (2M x 8); Speed: 75MHz; Supplier 1: Digi-Key; Supplier: Digi-Key; Supplier Device Package: 8-SO W; Supplier Part Number: M25P16-VMW6TGCT-ND
footprint M25P16_SO8 (SOIC, 8-Leads, Body 4,90x3,90mm, Pitch 1,27mm, IPC Medium Density)
pins: 1 S, 2 Q, 3 W, 4 GND, 5 D, 6 C, 7 HOLD, 8 VCC
text: SOIC-8

## M25P40
designator IC?
Manufacturer: Micron Technology Inc; Memory Size: 4M (512K x 8); Voltage - Supply: 2.3 V ~ 3.6 V; Supplier 1: Digi-Key; Supplier Device Package: 8-SO; Supplier: Digi-Key; Supplier Part Number: M25P40-VMN6TPBTR-ND
footprint M25P40-VMN6TPB_SO8N (SOIC, 8-Leads, Body 4,90x3,90mm, Pitch 1,27mm, IPC Medium Density)
pins: 1 S, 2 Q, 3 W, 4 GND, 5 D, 6 C, 7 HOLD, 8 VCC
text: SOIC-8

## M24128-DFMC6TG
designator IC?, comment M24128
Manufacturer: STMicroelectronics; Manufacturer Part Number 1: M24128-DFMC6TG; Part Description: EEPROM Memory IC 128Kb (16K x 8) I²C 1MHz 450ns 8-UFDFPN (2x3); Memory Type: Non-Volatile; Memory Format: EEPROM; Memory Size: 128Kb (16K x 8); Write Cycle Time - Word, Page: 5ms; Memory Interface: I²C; Voltage - Supply: 1.7 V ~ 5.5 V; Supplier 1: Digi-Key; RoHS: RoHS Compliant; Category: Integrated Circuits (ICs); Stock 1: 5894; Pricing 1: 1=0.35, 10=0.348, 100=0.2854, 500=0.27748, 1000=0.27004 (USD); Packaging: Cut Tape (CT); Part Status: Active; Technology: EEPROM; Operating Temperature: -40°C ~ 85°C (TA); Mounting Type: Surface Mount; Package / Case: 8-UFDFN Exposed Pad; Supplier Device Package: 8-UFDFPN (2x3); ComponentLink1URL: http://www.st.com/content/ccc/resource/technical/document/datasheet/59/05/c9/5b/7b/41/48/b6/CD00259167.pdf/files/CD00259167.pdf/jcr:content/translations/en.CD00259167.pdf; ComponentLink1Description: http://www.st.com/content/ccc/resource/technical/document/datasheet/59/05/c9/5b/7b/41/48/b6/CD00259167.pdf/files/CD00259167.pdf/jcr:content/translations/en.CD00259167.pdf; Supplier Part Number 1: 497-15739-1-ND
footprint M24128-DFMC6TG (8-UFDFPN (2x3))
pins: 1 E0 (in), 2 E1 (in), 3 E2 (in), 4 VSS (power), 5 SDA (io), 6 SCL (in), 7 ~{WC} (in), 8 VCC (power), PAD (power)

## M24128S
designator IC?
Manufacturer: STMicroelectronics; Manufacturer Part Number 1: M24128S-FCU6T/T; Part Description: IC EEPROM 128KBIT 400KHZ 4WLCSP; Organization: 16 k x 8; Format - Memory: EEPROMs - Serial; Memory Type: EEPROM; Memory Size: 128K (16K x 8); Speed: 400kHz; Interface: I²C, 2-Wire Serial; Voltage - Supply: 1.7 V ~ 5.5 V; Supplier 1: Digi-Key; RoHS: RoHS Compliant; Category: Integrated Circuits (ICs); Stock 1: 1555; Pricing 1: 1=0.48, 10=0.473, 100=0.3883, 500=0.37752, 1000=0.3674 (USD); Packaging: Cut Tape (CT); Part Status: Active; Operating Temperature: -40°C ~ 85°C (TA); Package / Case: 4-XFBGA, WLCSP; Supplier Device Package: 4-WLCSP; ComponentLink1URL: http://www.st.com/content/ccc/resource/technical/document/datasheet/54/55/87/98/35/27/49/88/DM00103408.pdf/files/DM00103408.pdf/jcr:content/translations/en.DM00103408.pdf; ComponentLink1Description: http://www.st.com/content/ccc/resource/technical/document/datasheet/54/55/87/98/35/27/49/88/DM00103408.pdf/files/DM00103408.pdf/jcr:content/translations/en.DM00103408.pdf; Supplier Part Number 1: 497-15026-1-ND
footprint M24128S
pins: A1 VCC, A2 SCL (io), B1 SDA (io), B2 VSS

## MAX889T
designator IC?
Manufacturer Part Number 1: MAX889TESA+; Manufacturer: Maxim Integrated; Synchronous Rectifier: No; Voltage - Input: 2.7 V ~ 5.5 V; Current - Output: 200mA; Number of Outputs: 1; Output Type: Adjustable; Frequency - Switching: 2MHz; Voltage - Output: -2.5 V ~ -5.5 V; Supplier 1: Digi-Key; Packaging: Tube; Category: Integrated Circuits (ICs); Type: Switched Capacitor (Charge Pump), Inverting; Mounting Type: Surface Mount; Supplier Device Package: 8-SOIC N; Package / Case: 8-SOIC (0.154", 3.90mm Width); Operating Temperature: -40°C ~ 85°C; RoHS: RoHS Compliant; Supplier Part Number 1: MAX889TESA+-ND
footprint MAX889T (SOIC, 8-Leads, Body 4,90x3,90mm, Pitch 1,27mm, IPC Medium Density)
pins: 1 IN, 2 Cap+, 3 GND, 4 Cap-, 5 OUT, 6 SHDN, 7 FB, 8 AGND

## MAX7322ATE+
designator IC?
Manufacturer: Maxim Integrated; Interface: I²C; Number of I/O: 4 (Input Only); Voltage - Supply: 1.7 V ~ 5.5 V; Interrupt Output: Yes; Current - Output Source/Sink: 20mA; Frequency - Clock: 400kHz; Supplier 1: Digi-Key; Mounting Type: Surface Mount; Category: Integrated Circuits (ICs); RoHS: RoHS Compliant; Packaging: Tube; Manufacturer Part Number: MAX7322ATE+; Supplier Device Package: 16-TQFN-EP (3x3); Package / Case: 16-WFQFN Exposed Pad; Operating Temperature: -40°C ~ 125°C; Features: POR; Output Type: -; Supplier Part Number 1: MAX7322ATE+-ND
footprint MAX7322ATE_QFN16
pins: 1 AD2, 2 O0, 3 O1, 4 I2, 5 I3, 6 GND, 7 I4, 8 I5, 9 O6, 10 O7, 11 ~{INT}, 12 SCL, 13 SDA, 14 V+, 15 AD0, 16 ~{RST}, 17 EP

## MAX15050
designator IC?
Input Voltage MIN: 2.9 V; Output Voltage: 600 mV to 6 V; Output Current: 4 A; Brand: Maxim Integrated; Input Voltage MAX: 5.5 V; Supplier 1: Mouser; Minimum Operating Temperature: - 40 C; Series: MAX15050; Package / Case: WLP-16; Category: Voltage Regulators - Switching Regulators; Maximum Operating Temperature: + 85 C; Supplier Part Number 1: 700-MAX15050EWE+T
footprint MAX15050 (BGA, 16-Leads, Body 2,22x2,06mmx0,25mm, Pitch 0,50mm)
pins: A1 GND, A2 GND, A3 IN, A4 IN, B1 LX, B2 LX, B3 LX, B4 VDD, C1 BST, C2 I.C., C3 I.C., C4 EN, D1 PWRGD, D2 FB, D3 COMP, D4 REFIN/SS

## MAX15112
designator IC?
Development Kit: MAX15112EVKIT#; Topology: Buck; Brand: Maxim Integrated; Input Voltage MIN: 2.7 V; Input Voltage MAX: 5.5 V; Supplier 1: Mouser; Type: Current-Mode Synchronous Step-Down; Category: Voltage Regulators - Switching Regulators; Series: MAX15112; Package / Case: WLP-24; Maximum Operating Temperature: + 85 C; Minimum Operating Temperature: - 40 C; Supplier Part Number 1: 700-MAX15112EWG+
footprint MAX15112 (BGA, 24-Leads, Body 3,02x2,07mmx0,25mm, Pitch 0,50mm)
pins: A1 GND, A2 LX, A3 LX, A4 BST, A5 PGOOD, A6 GSNS, B1 GND, B2 LX, B3 LX, B4 IN, B5 N.C., B6 FB, C1 GND, C2 LX, C3 LX, C4 IN, C5 SKIP, C6 SS/REFIN, D1 GND, D2 GND, D3 AIN, D4 IN, D5 EN, D6 COMP

## MIC37122
designator IC?
Voltage - Input: 2.375 V ~ 5.5 V; Supplier 1: Digi-Key; Supplier: Digi-Key; Package / Case: 8-SOIC (0.154", 3.90mm Width); Supplier Part Number: 576-4334-2-ND
footprint MIC37122YM TR_SO8 (SOIC, 8-Leads, Body 4,90x3,90mm, Pitch 1,27mm, IPC Medium Density)
pins: 1 EN, 2 IN, 3 OUT, 4 ADJ, 5 GND, 6 GND, 7 GND, 8 GND

## MIC38300
designator IC?
Manufacturer: Microchip Technology; Manufacturer Part Number 1: MIC38300HYHL-TR; Current - Output (Max): 3A; Voltage - Input (Min): 3V; Voltage - Input (Max): 5.5V; Voltage - Output 1: 1 ~ 5 V; Number of Outputs: 1; Supplier 1: Digi-Key; Features: OCP, OVP, UVLO; Voltage - Output 2: -; Applications: ITE (Commercial); Package / Case: 28-PowerVQFN Variant, 28-MLF®; Mounting Type: Surface Mount; RoHS: RoHS Compliant; Size / Dimension: 0.236" L x 0.158" W (6.00mm x 4.00mm); Voltage - Isolation: -; Power (Watts) - Manufacture Series: -; Type: Non-Isolated PoL Module; Efficiency: -; Voltage - Output 3: -; Packaging: Cut Tape (CT); Operating Temperature: -40°C ~ 125°C; Power (Watts) - Max: -; Category: Power Supplies - Board Mount; Supplier Part Number 1: 576-2960-1-ND
pins: 1 SWO, 2 SWO, 3 SWO, 4 SWO, 5 SWO, 6 SW, 7 ePAD, 8 AVIN, 9 LPF, 10 AGND, 11 FB, 12 LDOOUT, 13 LDOOUT, 14 LDOIN, 15 LDOIN, 16 PVIN, 17 PVIN, 18 EN, 19 PGND, 20 PGND, 21 PGND, 22 ePAD, 23 SW, 24 SW, 25 SW, 26 SW, 27 SW, 28 SW

## Micro_USB3_A
designator J?, comment Micro_USB3A
footprint microUSB3A_SM
pins: 1 VBUS, 2 D-, 3 D+, 4 GND, 5 MicB_SSRX-, 6 MicB_SSRX+, 7 GND_DRAIN, 8 MicB_SSTX-, 9 MicB_SSTX+, 12 Shield

## Micro_USB3_B
designator J?, comment Micro_USB3B
Specifications: USB 3.0, Super Speed; Connector Type: USB - micro B; Supplier 1: Digi-Key; Mounting Type: Surface Mount, Right Angle, Horizontal; Category: Connectors, Interconnects; Supplier: Digi-Key; Supplier Part Number: GSB343K33HRCT-ND
pins: 1 VBUS, 2 D-, 3 D+, 4 ID, 5 GND, 6 MicB_SSTX-, 7 MicB_SSTX+, 8 GND_DRAIN, 9 MicB_SSRX-, 10 MicB_SSRX+, 11 Shield, 12 Shield

## MicroSD_card
designator J?
Supplier 1: Digi-Key; Supplier Part Number 1: HR1964CT-ND
pins: 1 DAT2, 2 CD/DAT3, 3 CMD, 4 VDD, 5 CLK, 6 VSS, 7 DAT0, 8 DAT1, 9 CD_SW_B, 10 CD_SW_A

## Mictor_38pin
designator J?
Manufacturer: TE CONNECTIVITY / AMP; Manufacturer Part Number: 2-5767004-2; Contact Termination Type: Surface Mount; Pitch Spacing: 0.64; No. of Contacts: 38; Gender: Receptacle; No. of Rows: 2; Row Pitch: 7.06; Supplier 1: Newark; Series: MICTOR; Contact Plating: Gold; Supplier Part Number 1: 24K3655
footprint AMP_MICTOR38
pins: 1 +5V, 2 DNC, 3 GND_DC, 4 DNC, 5 CLKe, 6 CLKo, 7 D15e, 8 D15o, 9 D14e, 10 D14o, 11 D13e, 12 D13o, 13 D12e, 14 D12o, 15 D11e, 16 D11o, 17 D10e, 18 D10o, 19 D9e, 20 D9o, 21 D8e, 22 D8o, 23 D7e, 24 D7o, 25 D6e, 26 D6o, 27 D5e, 28 D5o, 29 D4e, 30 D4o, 31 D3e, 32 D3o, 33 D2e, 34 D2o, 35 D1e, 36 D1o, 37 D0e, 38 D0o

## MMBD1205
designator VD?
Reverse Recovery Time (trr): 4ns; Diode Configuration: 1 Pair Common Anode; Voltage - DC Reverse (Vr) (Max): 100V; Current - Average Rectified (Io) (per Diode): 200mA; Current - Reverse Leakage @ Vr: 50nA @ 50V; Voltage - Forward (Vf) (Max) @ If: 1V @ 200mA; Supplier 1: Digi-Key; Category: Discrete Semiconductor Products; Supplier Device Package: SOT-23-3 (TO-236); Package / Case: TO-236-3, SC-59, SOT-23-3; Supplier Part Number 1: MMBD1205CT-ND
footprint SOT23-3_v2 (SOT23, 3 pin)
pins: 1, 2, 3

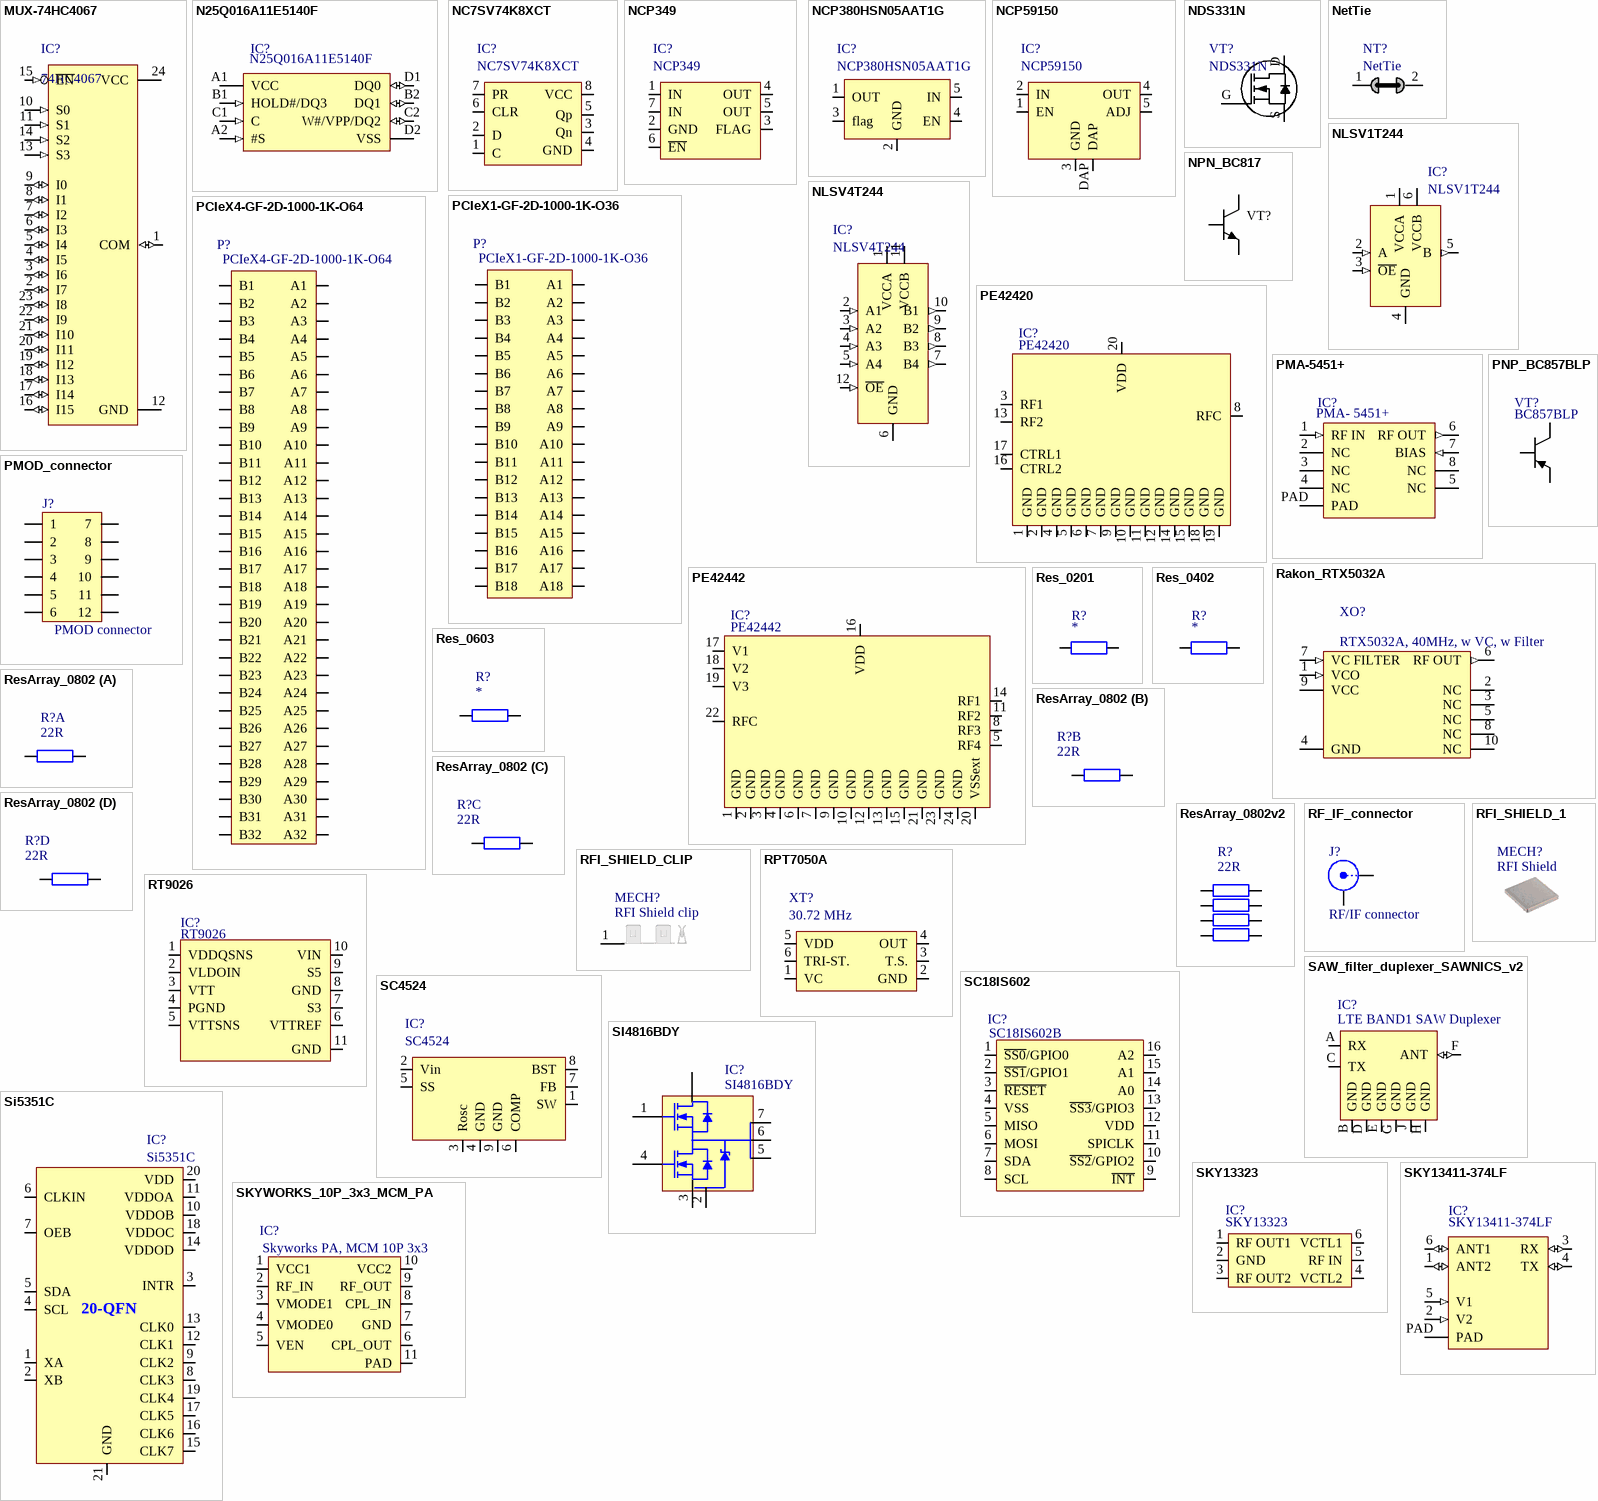
[diagram p31: symbols MUX-74HC4067 to SKYWORKS_10P_3x3_MCM_PA]

## MUX-74HC4067
designator IC?, comment 74HC4067
MUX-74HC4067; Manufacturer Part Number 1: 74HC4067PW,118; Manufacturer: NXP Semiconductors; Function: Multiplexer/Demultiplexer; On-State Resistance: 120 Ohm; Circuit: 1 x 1:16; Current - Supply: 16µA; Voltage - Supply, Single/Dual (±): 2 V ~ 10 V; Voltage Supply Source: Single Supply; Supplier 1: Digi-Key; Mounting Type: Surface Mount; Supplier Device Package: 24-TSSOP; Packaging: Tape & Reel (TR); RoHS: RoHS Compliant; Operating Temperature: -40°C ~ 125°C; Category: Integrated Circuits (ICs); Package / Case: 24-TSSOP (0.173", 4.40mm Width); Supplier Part Number 1: 74HC4067PW,118-ND
footprint SSOP-24 (SOP, 24-Leads, Body 8,5x5,6mm (max), Pitch 0,65mm, IPC Medium Density)
footprint SSOP-24 (SOP, 24-Leads, Body 8,5x5,6mm (max), Pitch 0,65mm, IPC Medium Density)
pins: 1 COM (io), 2 I7 (io), 3 I6 (io), 4 I5 (io), 5 I4 (io), 6 I3 (io), 7 I2 (io), 8 I1 (io), 9 I0 (io), 10 S0 (in), 11 S1 (in), 12 GND (power), 13 S3 (in), 14 S2 (in), 15 ~{EN} (in), 16 I15 (io), 17 I14 (io), 18 I13 (io), 19 I12 (io), 20 I11 (io), 21 I10 (io), 22 I9 (io), 23 I8 (io), 24 VCC (power)

## N25Q016A11E5140F
designator IC?
Manufacturer: Micron Technology Inc.; Manufacturer Part Number 1: N25Q016A11E5140F TR; Part Description: IC FLASH 16MBIT 108MHZ LBGA; Voltage - Supply: 1.7 V ~ 2 V; Speed: 108MHz; Interface: SPI Serial; Memory Size: 16M (4M x 4); Memory Type: FLASH - NOR; Format - Memory: FLASH; Supplier 1: Digi-Key; Supplier Device Package: 8-XFCSP (2x2.8); RoHS: RoHS Compliant; Packaging: Cut Tape (CT); Package / Case: 8-XFBGA, CSPBGA; Operating Temperature: -40°C ~ 85°C (TA); Category: Integrated Circuits (ICs); Supplier Part Number 1: 557-1634-1-ND
footprint N25Q016A11E5140F (2.8 x 2 16 MB memory)
pins: A1 VCC (power), A2 #S (in), B1 HOLD#/DQ3 (in), B2 DQ1 (io), C1 C (in), C2 W#/VPP/DQ2 (io), D1 DQ0 (io), D2 VSS

## NC7SV74K8XCT
designator IC?
Manufacturer: Fairchild Semiconductor; Max Propagation Delay @ V, Max CL: 2.8ns @ 3.3V, 30pF; Frequency - Clock: 200MHz; Current - Output High, Low: 24mA, 24mA; Current - Quiescent: 0.9µA; Number of Bits per Element: 1; Trigger Type: Positive Edge; Output Type: Differential; Function: Set(Preset) and Reset; Input Capacitance: 2pF; Voltage - Supply: 0.9 V ~ 3.6 V; Supplier 1: Digi-Key; Operating Temperature: -40°C ~ 85°C (TA); Mounting Type: Surface Mount; Package / Case: 8-VFSOP (0.091", 2.30mm Width); Packaging: Cut Tape (CT); Number of Elements: 1; Manufacturer Part Number 1: NC7SV74K8X; RoHS: RoHS Compliant; Type: D-Type; Category: Integrated Circuits (ICs); Supplier Part Number 1: NC7SV74K8XCT-ND
footprint NC7SV74K8XCT (SOIC, 8-Leads, Body 2,00x2,30mm, Pitch 1,27mm, IPC Medium Density)
pins: 1 C, 2 D, 3 Qn, 4 GND, 5 Qp, 6 CLR, 7 PR, 8 VCC

## NCP349
designator IC?
Manufacturer: ON Semiconductor; Manufacturer Part Number 1: NCP349MNAETBG; Current - Supply: 70µA; Voltage - Supply: 1.2 V ~ 28 V; Supplier 1: Digi-Key; Operating Temperature: -40°C ~ 85°C; Package / Case: 6-VFDFN Exposed Pad; RoHS: RoHS Compliant; Supplier Device Package: 6-DFN (2x1.6); Category: Integrated Circuits (ICs); Mounting Type: Surface Mount; Voltage - Input: -; Applications: Overvoltage Protection Controller; Packaging: Digi-Reel®; Supplier Part Number 1: NCP349MNAETBGOSDKR-ND
footprint NCP349 (SON, 6-Leads, Body 1,60x2,00mm, Pitch 0,50mm, Thermal Pad 1,20x0,79mm, IPC Medium Density)
pins: 1 IN, 2 GND, 3 FLAG, 4 OUT, 5 OUT, 6 ~{EN}, 7 IN

## NCP380HSN05AAT1G
designator IC?
Manufacturer: ON Semiconductor; Voltage - Input: 2.5 V ~ 5.5 V; Function: Current Limiting; Current - Output: 500mA; Supplier 1: Digi-Key; Category: Integrated Circuits (ICs); Package / Case: 6-TSOP (0.059", 1.50mm Width) 5 leads; Supplier Part Number 1: NCP380HSN05AAT1GOSCT-ND
footprint SOT23-5
pins: 1 OUT, 2 GND, 3 flag, 4 EN, 5 IN

## NCP59150
designator IC?
Manufacturer Part Number 1: NCP59151DS50R4G; Manufacturer: ON SEMICONDUCTOR; Input Voltage Min: 2.24; Dropout Voltage Vdo: 300; Output Voltage Nom.: 5; Input Voltage Max: 13.5; Output Current: 1.5; LDO Regulator Case Style: TO-263; Supplier 1: Farnell; Operating Temperature Range: -40°C to +125; Supplier Part Number 1: 2217055
footprint DPAK170P1420X450-6N (D2-PAK, 6-Pads, Body 7,75x8,46mm (max), IPC Medium Density)
pins: 1 EN, 2 IN, 3 GND, 4 OUT, 5 ADJ, DAP

## NDS331N
designator VT?
Gate Charge (Qg) @ Vgs: 5nC @ 4.5V; Power - Max: 460mW; Current - Continuous Drain (Id) @ 25°C: 1.3A (Ta); Input Capacitance (Ciss) @ Vds: 162pF @ 10V; FET Type: MOSFET N-Channel, Metal Oxide; Drain to Source Voltage (Vdss): 20V; FET Feature: Logic Level Gate; Supplier Device Package: 3-SSOT; Category: Discrete Semiconductor Products; Mounting Type: Surface Mount; Package / Case: TO-236-3, SC-59, SOT-23-3; Supplier: Digi-Key; Supplier Part Number 1: NDS331NCT-ND
footprint SOT23-3 (SOT23, 3 pin)
pins: D, G, S

## NetTie
designator NT?  (net tie, no BOM)
pins: 1, 2

## NLSV1T244
designator IC?
pins: 1 VCCA (power), 2 A (in), 3 ~{OE} (in), 4 GND (power), 5 B (out), 6 VCCB (power)

## NLSV4T244
designator IC?
Manufacturer: ON Semiconductor; Voltage - Supply: 0.9 V ~ 4.5 V; Logic Function: Translator, Unidirectional, 3-State; Supplier 1: Digi-Key; Category: Integrated Circuits (ICs); Package / Case: 12-UFQFN; Supplier Device Package: 12-UQFN (1.7x2); Supplier Part Number 1: NLSV4T244MUTAGOSDKR-ND
footprint NLSV4T244 (PQFN, 12-Leads, Body 1,70x2,00mm, Pitch 0,40mm, IPC Medium Density)
pins: 1 VCCA (power), 2 A1 (in), 3 A2 (in), 4 A3 (in), 5 A4 (in), 6 GND (power), 7 B4 (out), 8 B3 (out), 9 B2 (out), 10 B1 (out), 11 VCCB (power), 12 ~{OE} (in)

## NPN_BC817
designator VT?  (value not drawn)
Transistor SOT-23; Manufacturer Part Number 1: BC817; Manufacturer: MULTICOMP; Transistor Polarity: NPN; Collector Emitter Voltage V(br)ceo: 45; Transition Frequency ft: 170; Power Dissipation Pd: 300; DC Collector Current: 500; DC Current Gain hFE: 100; No. of Pins: 3; SVHC: No SVHC (16-Jun-2014); DC Current Gain Hfe Max: 600; Supplier 1: Farnell; RoHS: YES; Transistor Case Style: SOT-23; Operating Temperature Max: 150; MSL: -; Operating Temperature Min: -65; Operating Temperature Range: -65°C to +150; Supplier Part Number 1: 1798076
footprint SOT23-3_v2 (SOT23, 3 pin)
pins: 1 B, 2 E, 3 C

## PCIeX1-GF-2D-1000-1K-O36
designator P?  (no BOM)
footprint PCIeX1-GF-2D-1000-1K-O36
pins: A1, A2, A3, A4, A5, A6, A7, A8, A9, A10, A11, A12, A13, A14, A15, A16, A17, A18, B1, B2, B3, B4, B5, B6, B7, B8, B9, B10, B11, B12, B13, B14, B15, B16, B17, B18

## PCIeX4-GF-2D-1000-1K-O64
designator P?  (no BOM)
footprint PCIeX4-GF-2D-1000-1K-O64
pins: A1, A2, A3, A4, A5, A6, A7, A8, A9, A10, A11, A12, A13, A14, A15, A16, A17, A18, A19, A20, A21, A22, A23, A24, A25, A26, A27, A28, A29, A30, A31, A32, B1, B2, B3, B4, B5, B6, B7, B8, B9, B10, B11, B12, B13, B14, B15, B16, B17, B18, B19, B20, B21, B22, B23, B24, B25, B26, B27, B28, B29, B30, B31, B32

## PE42420
designator IC?
UltraCMOS SPDT RF Switch  100 – 6000 MHz; Manufacturer Part Number: PE42420LGBB-Z; Manufacturer: Peregrine Semiconductor; Topology: Absorptive; Impedance: 50 Ohm; Frequency - Upper: 6GHz; RF Type: General Purpose; Voltage - Supply: 2.7 V ~ 5.5 V; Frequency - Lower: 100MHz; Insertion Loss @ Frequency: 1.6dB @ 6GHz; Isolation @ Frequency: 50dB @ 6GHz (typ); P1dB: 33dBm (min) IP1dB; IIP3: 65dBm (typ); Supplier 1: Digi-Key; RoHS: RoHS Compliant; Category: RF/IF and RFID; Circuit: SPDT; Supplier Device Package: 20-LGA (4x4); Operating Temperature: -40°C ~ 85°C; Features: -; Packaging: Cut Tape (CT); Package / Case: 20-TFLGA Exposed Pad; Supplier Part Number 1: 1046-1069-1-ND
footprint PE42420_20QFN (QFN, 20-Leads, Body 4,00x4,00mm, Pitch 0,50mm, Thermal Pad 2,70x2,70mm, IPC Medium Density)
pins: 1 GND, 2 GND, 3 RF1 (io), 4 GND, 5 GND, 6 GND, 7 GND, 8 RFC (io), 9 GND, 10 GND, 11 GND, 12 GND, 13 RF2 (io), 14 GND, 15 GND, 16 CTRL2 (in), 17 CTRL1 (in), 18 GND, 19 GND, 20 VDD (power)

## PE42442
designator IC?
UltraCMOS SPDT RF Switch  100 – 6000 MHz; Manufacturer Part Number 1: PE42442A-Z; Manufacturer: Peregrine Semiconductor; Topology: Absorptive; Insertion Loss @ Frequency: 1.1dB @ 900MHz; IIP3: 58dBm (typ); Isolation @ Frequency: 61dB @ 900MHz (typ); RF Type: 3G/4G; Voltage - Supply: 3.3V; Impedance: 50 Ohm; Circuit: SP4T; Frequency - Lower: 30MHz; Frequency - Upper: 6GHz; Supplier 1: Digi-Key; Supplier Device Package: 24-QFN (4x4); Package / Case: 24-WFQFN Exposed Pad; Operating Temperature: -40°C ~ 105°C; Features: -; P1dB: -; Category: RF/IF and RFID; Packaging: Cut Tape (CT); RoHS: RoHS Compliant; Supplier Part Number 1: 1046-1096-1-ND
footprint PE42442_24QFN (QFN, 24-Leads, Body 4,00x4,00mm, Pitch 0,50mm, thermal pad, IPC Medium Density)
pins: 1 GND, 2 GND, 3 GND, 4 GND, 5 RF4 (io), 6 GND, 7 GND, 8 RF3 (io), 9 GND, 10 GND, 11 RF2 (io), 12 GND, 13 GND, 14 RF1 (io), 15 GND, 16 VDD (power), 17 V1 (in), 18 V2 (in), 19 V3 (in), 20 VSSext, 21 GND, 22 RFC (io), 23 GND, 24 GND

## PMA-5451+
designator IC?, comment PMA- 5451+
Part Description: Wideband, up to 6 GHz; Ultra Low Noise Figure, 0.6 dB; High IP3/Low Current, 30mA Monolithic Amplifier. 3x3mm MCLP; Manufacturer: Mini-Circuits; Manufacturer Part Number 1: PMA-5451+; Supplier Part Number 1: PMA-5451+; Supplier 1: Mini-Circuits
footprint PMA-5451+_MCLP8
pins: 1 RF IN (in), 2 NC, 3 NC, 4 NC, 5 NC, 6 RF OUT (out), 7 BIAS (in), 8 NC, PAD

## PMOD_connector
designator J?, comment PMOD connector
Header, 4-Pin, Dual row; Manufacturer Part Number: PPPC062LJBN-RC; Manufacturer: Sullins Connector Solutions; Row Spacing: 0.100" (2.54mm); Number of Positions Loaded: All; Number of Positions: 12; Supplier 1: Digi-Key; Mounting Type: Through Hole, Right Angle; Contact Finish: Gold; Features: -; Category: Connectors, Interconnects; Packaging: Bulk; RoHS: RoHS Compliant; Number of Rows: 2; Contact Finish Thickness: Flash; Pitch: 0.100" (2.54mm); Termination: Solder; Contact Type: Female Socket; Color: Black; Connector Type: Header; Fastening Type: -; Supplier Part Number 1: S5559-ND
footprint PMODconn_right_angle_TH (JTAG)
pins: 1, 2, 3, 4, 5, 6, 7, 8, 9, 10, 11, 12

## PNP_BC857BLP
designator VT?, comment BC857BLP
Manufacturer: Diodes Incorporated; Manufacturer Part Number 1: BC857BLP-7B; Part Description: Bipolar (BJT) Transistor PNP 45V 100mA 100MHz 250mW Surface Mount 3-DFN1006 (1.0x0.6); Transistor Type: PNP; Current - Collector (Ic) (Max): 100mA; Voltage - Collector Emitter Breakdown (Max): 45V; Vce Saturation (Max) @ Ib, Ic: 650mV @ 5mA, 100mA; Current - Collector Cutoff (Max): 15nA (ICBO); DC Current Gain (hFE) (Min) @ Ic, Vce: 220 @ 2mA, 5V; Power - Max: 250mW; Frequency - Transition: 100MHz; Supplier 1: Digi-Key; RoHS: RoHS Compliant; Category: Discrete Semiconductor Products; Stock 1: 16398; Pricing 1: 1=0.39, 10=0.32, 100=0.2175, 500=0.16316, 1000=0.12236 (USD); Packaging: Cut Tape (CT); Part Status: Active; Operating Temperature: -55°C ~ 150°C (TJ); Mounting Type: Surface Mount; Package / Case: 3-UFDFN; Supplier Device Package: 3-DFN1006 (1.0x0.6); ComponentLink1URL: https://www.diodes.com/assets/Datasheets/ds30526.pdf; ComponentLink1Description: https://www.diodes.com/assets/Datasheets/ds30526.pdf; Supplier Part Number 1: BC857BLP-7BDICT-ND
footprint BC857BLP
pins: B, C, E

## Rakon_RTX5032A
designator XO?, comment RTX5032A, 40MHz, w VC, w Filter
Part Description: RTX5032A 40MHz, High performance TCXO, With VC, Filter Enabled, 10-pin 5mm x 3.2 mm x 1.65 mm package; Manufacturer: Rakon; Manufacturer Part Number 1: RTX5032A; Supplier Part Number 1: RTX5032A; Supplier 1: RAKON
footprint RAKON_RTX5032A (RAKON RTX5032A 40MHz Filter enabled, without VC, 10pin)
pins: 1 VCO (in), 2 NC, 3 NC, 4 GND, 5 NC, 6 RF OUT (out), 7 VC FILTER (in), 8 NC, 9 VCC (power), 10 NC

## Res_0201
designator R?
value: *
pins: 1, 2

## Res_0402
designator R?
Value: *
footprint RES0402 (Chip Resistor, Body 1.0x0.5mm, EIA 0402, IPC Medium Density)
pins: 1, 2

## Res_0603
designator R?
Value: *
footprint RES0603 (Chip Resistor, Body 1.6x0.8mm, 0603, IPC Medium Density)
pins: 1, 2

## ResArray_0802
designator R?, comment 22R
Temperature Coefficient: ±200ppm/°C; Tolerance: ±5%; Supplier 1: Digi-Key; Supplier Part Number 1: YC124J-22TR-ND; Package / Case: 0804, Convex, Long Side Terminals; Value: 22R
footprint ChipResistorArray (Chip Array, Flat, 8-Leads, Pitch 0,60mm,  Body 2,05x1,05mm,  IPC Medium Density)
part A pins: 1, 2
part B pins: 3, 4
part C pins: 5, 6
part D pins: 7, 8

## ResArray_0802v2
designator R?, comment 22R
Manufacturer Part Number 1: YC124-JR-0722RL; Temperature Coefficient: ±200ppm/°C; Tolerance: ±5%; Supplier 1: Digi-Key; Supplier Part Number 1: YC124J-22TR-ND; Package / Case: 0804, Convex, Long Side Terminals; Value: 22R
footprint ChipResistorArray (Chip Array, Flat, 8-Leads, Pitch 0,60mm,  Body 2,05x1,05mm,  IPC Medium Density)
pins: 1, 2, 3, 4, 5, 6, 7, 8

## RF_IF_connector
designator J?, comment RF/IF connector
footprint MMCX_conn
pins: 1 X, 2 Y

## RFI_SHIELD_1
designator MECH?, comment RFI Shield  (mechanical)
Part Description: Enclosure, Shielding Cabinet Cover, Shielding Cabinet, 25 mm, 25 mm, 3 mm, Tin Plate; Manufacturer: WURTH ELEKTRONIK; Manufacturer Part Number 1: 36003250; Enclosure Material: Tin Plate; External Height - Metric: 25; External Height - Imperial: 0.98"; Enclosure Type: Shielding Cabinet; External Depth - Metric: 3; External Depth - Imperial: 0.12"; Supplier 1: Farnell; Supplier: Farnell; RoHS: YES; IP Rating: -; External Width - Imperial: 0.98"; NEMA Rating: -; External Width - Metric: 25; Supplier Part Number 1: 1909662

## RFI_SHIELD_CLIP
designator MECH?, comment RFI Shield clip
Manufacturer Part Number 1: S0971-46R; Manufacturer: HARWIN; Part Description: RFI SHIELD CLIP MINI TIN SMD; SVHC: No SVHC (15-Jun-2015); Supplier 1: Farnell; Supplier: Farnell; Length: 5.8; Clip Type: RFI Shield Clip; Clip Diameter: -; Product Range: -; Mounting Hole Dia: -; RoHS: YES; Supplier Part Number 1: 2361677
footprint RFI_SHIELD_CLPS_MINI (RFI SHIELD CLIP MINI TIN SMD, S0971-46R)
pins: 1 GND

## RPT7050A
designator XT?, comment 30.72 MHz
Manufacturer Part Number 1: E6245LF
footprint RPT7050A (Rakon's Pluto+ ASIC)
pins: 1 VC, 2 GND, 3 T.S., 4 OUT, 5 VDD, 6 TRI-ST.

## RT9026
designator IC?
footprint MSOP10
pins: 1 VDDQSNS, 2 VLDOIN, 3 VTT, 4 PGND, 5 VTTSNS, 6 VTTREF, 7 S3, 8 GND, 9 S5, 10 VIN, 11 GND

## SAW_filter_duplexer_SAWNICS_v2
designator IC?, comment LTE BAND1 SAW Duplexer
Manufacturer Part Number 1: SD-2140T2-C45R; Manufacturer: Sawnics; Part Description: Band 1 SAW duplexer, SMD; Supplier Part Number 1: SD-2140T2-C45R; Supplier 1: Sawnics
footprint SAW_filter_duplexer_SAWNICS_v2
pins: A RX (out), B GND, C TX (in), D GND, E GND, F ANT (io), G GND, H GND, J GND

## SC18IS602
designator IC?, comment SC18IS602B
Manufacturer Part Number: SC18IS602BIPW,128; Manufacturer: NXP Semiconductors; Current - Supply: 11mA; Protocol: I²C; Interface: SPI; Function: Controller; Voltage - Supply: 2.4 V ~ 3.6 V; Supplier 1: Digi-Key; Standards: -; Supplier Device Package: 16-TSSOP; Package / Case: 16-TSSOP (0.173", 4.40mm Width); RoHS: RoHS Compliant; Packaging: Tape & Reel (TR); Category: Integrated Circuits (ICs); Operating Temperature: -40°C ~ 85°C; Supplier Part Number 1: 568-10300-2-ND
footprint SC18IS602B_TSSOP16
pins: 1 ~{SS0}/GPIO0, 2 ~{SS1}/GPIO1, 3 ~{RES}~{ET}, 4 VSS (power), 5 MISO, 6 MOSI, 7 SDA, 8 SCL, 9 ~{INT}, 10 ~{SS2}/GPIO2, 11 SPICLK, 12 VDD (power), 13 ~{SS3}/GPIO3, 14 A0, 15 A1, 16 A2

## SC4524
designator IC?
Manufacturer: SEMTECH; Manufacturer Part Number 1: SC4524CSETRT; Input Voltage Max: 28; DC / DC Converter IC Case: SOIC; Switching Frequency: 1.56; Topology: Buck (Step Down); Supplier 1: Farnell; Supplier: Farnell; Supplier Part Number 1: 2369193
footprint SOIC127P600-8DL (8-Pin Small Outline Integrated Circuit 1.27 mm Pitch)
pins: 1 SW, 2 Vin, 3 Rosc, 4 GND, 5 SS, 6 COMP, 7 FB, 8 BST, 9 GND

## SI4816BDY
designator IC?
Dual N-Channel 30V (D-S)  MOSFET; Manufacturer: Vishay Siliconix; Power - Max: 1W, 1.25W; Gate Charge (Qg) @ Vgs: 10nC @ 5V; Vgs(th) (Max) @ Id: 3V @ 250µA; Current - Continuous Drain (Id) @ 25°C: 5.8A, 8.2A; FET Feature: Logic Level Gate; FET Type: 2 N-Channel (Half Bridge); Supplier 1: Digi-Key; Package / Case: 8-SOIC (0.154", 3.90mm Width); Drain to Source Voltage (Vdss): 30V; Category: Discrete Semiconductor Products; Supplier Part Number 1: SI4816BDY-T1-E3TR-ND
footprint SO-8_N (SOIC, 8-Leads, Body 4.9x3.9mm, Pitch 1.27mm, IPC Medium Density)
pins: 1 G, 2 S, 3 S, 4 G, 5 D, 6 D, 7 D, 8 D

## Si5351C
designator IC?
Manufacturer Part Number: SI5351C-A-GM; Voltage - Supply: 1.71 V ~ 3.6 V; Input: Clock, Crystal; Ratio - Input:Output: 2:8; Frequency - Max: 160MHz; Supplier 1: Digi-Key; Supplier Device Package: 20-QFN (4x4); Type: Clock Generator; Package / Case: 20-VFQFN Exposed Pad; Category: Integrated Circuits (ICs); Supplier Part Number: SI5351C-A-GM-ND
footprint Si5351C_20QFN (QFN, 20-Leads, Body 4,00x4,00mm, Pitch 0,50mm, Thermal Pad 2,70x2,70mm, IPC Medium Density)
pins: 1 XA, 2 XB, 3 INTR, 4 SCL, 5 SDA, 6 CLKIN, 7 OEB, 8 CLK3, 9 CLK2, 10 VDDOB, 11 VDDOA, 12 CLK1, 13 CLK0, 14 VDDOD, 15 CLK7, 16 CLK6, 17 CLK5, 18 VDDOC, 19 CLK4, 20 VDD, 21 GND
text: 20-QFN

## SKY13323
designator IC?
SKY13323-378LF: 0.1-3.0 GHz GaAs SPDT Switch; Manufacturer: Skyworks Solutions Inc.; Frequency - Lower: 100MHz; P1dB: 27dBm (typ) IP1dB; Isolation @ Frequency: 27dB @ 3GHz (typ); RF Type: 802.11b/g; Impedance: 50 Ohm; IIP3: 50dBm (typ); Topology: Reflective; Insertion Loss @ Frequency: 0.35dB @ 3GHz; Frequency - Upper: 3GHz; Supplier 1: Digi-Key; Operating Temperature: -40°C ~ 85°C; RoHS: RoHS Compliant; Package / Case: 6-XFDFN Exposed Pad; Circuit: SPDT; Features: -; Supplier Device Package: 6-MLPD (1x1); Category: RF/IF and RFID; Packaging: Cut Tape (CT); Manufacturer Part Number 1: SKY13323-378LF; Supplier Part Number 1: 683-1334-1-ND
footprint SKY13323-378LF (SKY13323-378LF RF switch)
pins: 1 RF OUT1 (out), 2 GND, 3 RF OUT2 (out), 4 VCTL2 (in), 5 RF IN (in), 6 VCTL1 (in)

## SKY13411-374LF
designator IC?
Manufacturer: Skyworks Solutions Inc.; Part Description: RF Switch IC 802.11a/b/g/n DPDT 50 Ohm 6-MLPD (1.5x1.5); Frequency - Lower: 100MHz; Isolation @ Frequency: 14dB @ 6GHz (typ); Insertion Loss @ Frequency: 0.9dB @ 6GHz; IIP3: 50dBm (typ); Topology: Reflective; Circuit: DPDT; P1dB: 30dBm (typ) IP1dB; Impedance: 50 Ohm; RF Type: 802.11a/b/g/n; Supplier 1: Digi-Key; Manufacturer Part Number 1: SKY13411-374LF; RoHS: RoHS Compliant; Category: RF/IF and RFID; Stock 1: 18782; Pricing 1: 1=0.88, 10=0.782, 100=0.6099, 500=0.50382, 1000=0.39776 (USD); Packaging: Cut Tape (CT); Part Status: Active; Features: -; Operating Temperature: -40°C ~ 85°C; Voltage - Supply: -; Package / Case: 6-XFDFN Exposed Pad; Supplier Device Package: 6-MLPD (1.5x1.5); ComponentLink1URL: http://www.skyworksinc.com/uploads/documents/201665B.pdf; ComponentLink1Description: http://www.skyworksinc.com/uploads/documents/201665B.pdf; Supplier Part Number 1: 863-1455-1-ND
footprint SKY13411-374LF
pins: 1 ANT2 (io), 2 V2 (in), 3 RX (io), 4 TX (io), 5 V1 (in), 6 ANT1 (io), PAD